# Altium schematic symbol library 我的器件.SCHLIB: 211 symbols (part 1 of 2)
Pins are listed as number, name and electrical type; pins without a type are passive.

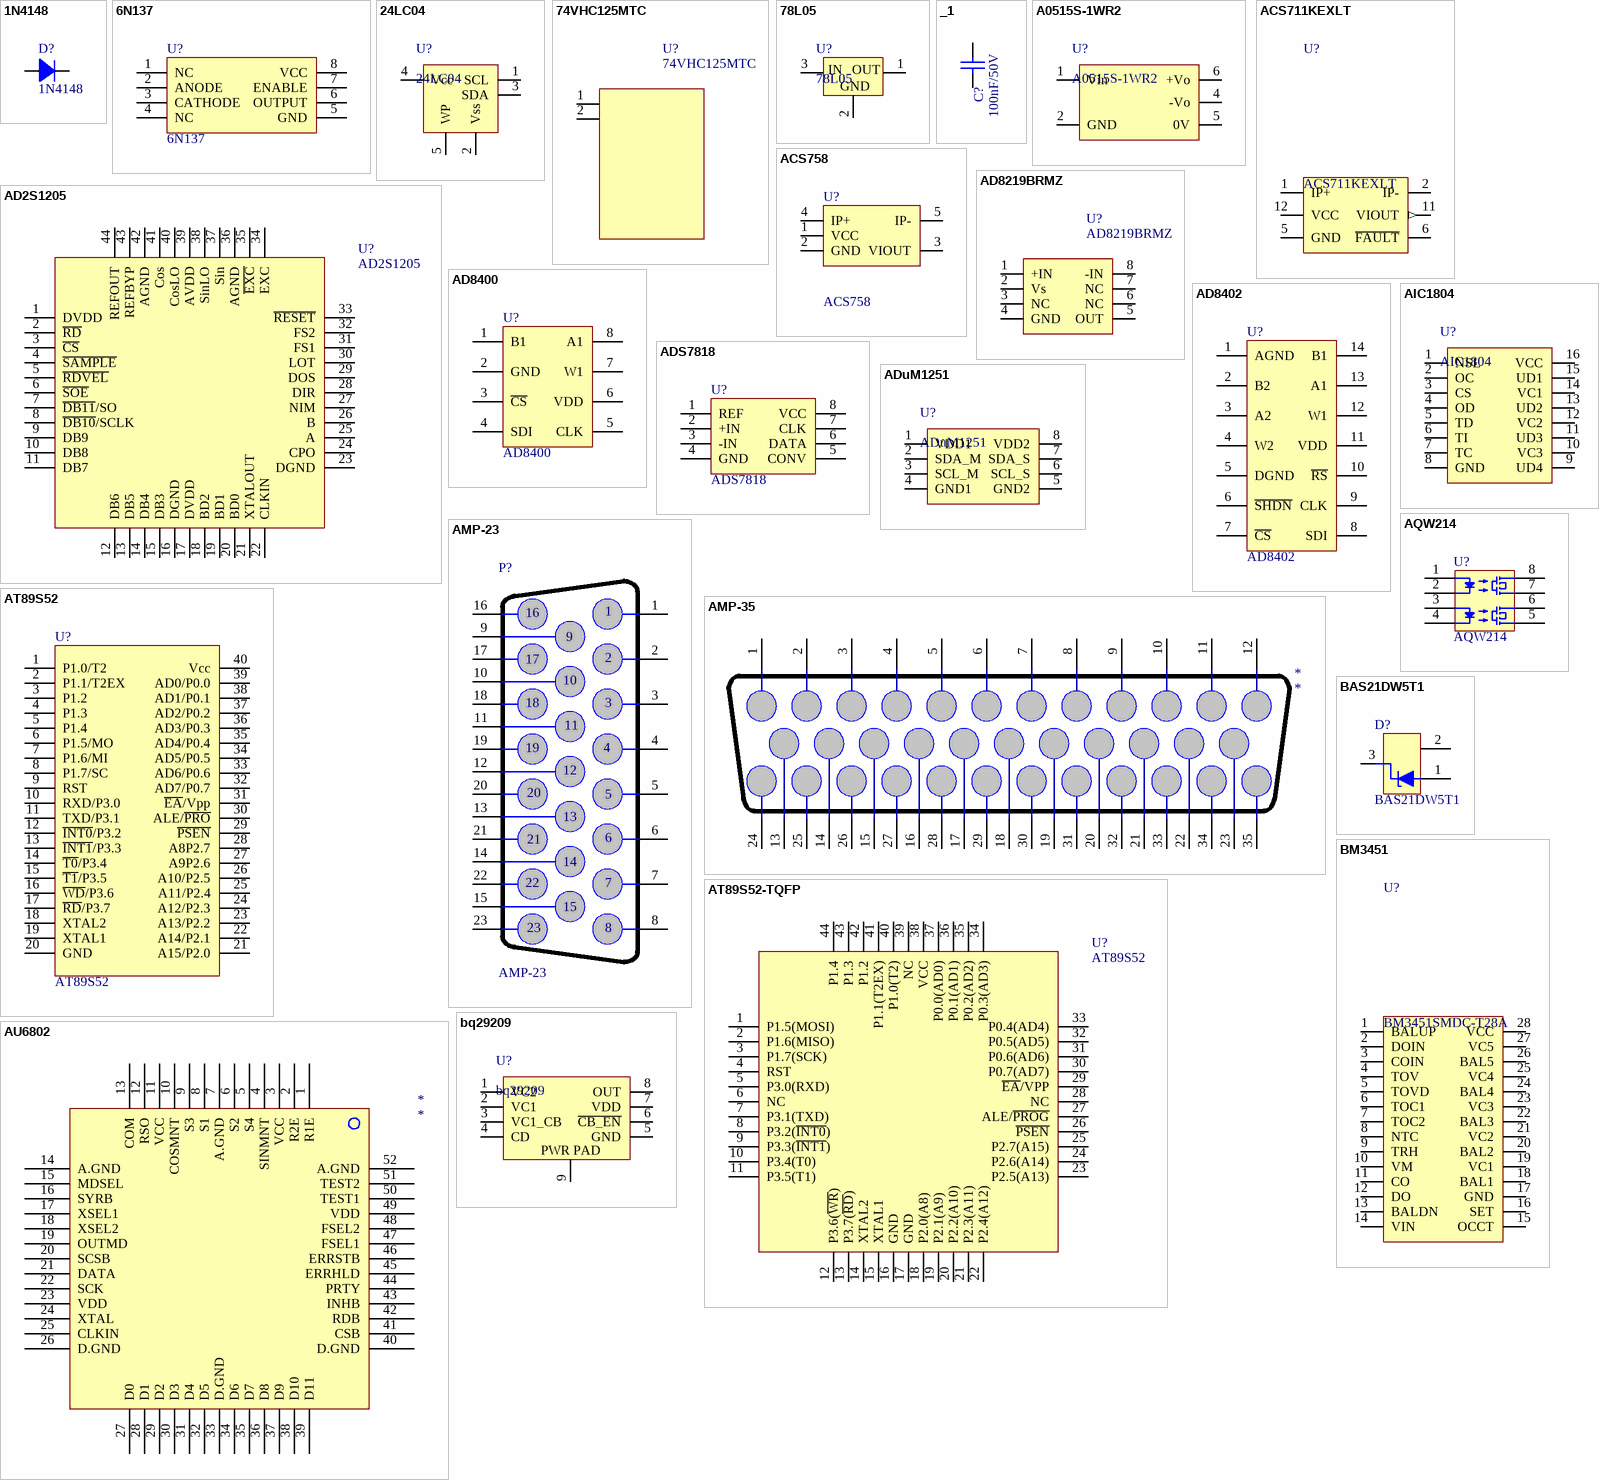
[diagram p0: symbols 1N4148 to bq29209]

## 1N4148
designator D?
HIGH-SPEED   SWITCHING DIODE; Manufacturers: ST; 10 Price  RMB: 0.0624; 1000 Price  RMB: 0.0472; Manufacturer's Footprint: *
footprint SOD123
pins: 1 A, 2 K

## 6N137
designator U?
footprint DIP-8 (Footprint not found)
pins: 1 NC, 2 ANODE, 3 CATHODE, 4 NC, 5 GND, 6 OUTPUT, 7 ENABLE, 8 VCC

## 24LC04
designator U?
Serial EEPROM; Manufacturers: Microchip; 1000 Price  RMB: 2; 10 Price  RMB: 2.8
footprint SOT23-5
pins: 1 SCL, 2 Vss, 3 SDA, 4 Vcc, 5 WP

## 74VHC125MTC
designator U?
Quad Buffer with 3-STATE Outputs; Manufacturers: FAIRCHILD; Manufacturer's Footprint: TSSOP14; 1000 Price  RMB: 0.7; 10 Price  RMB: 1
footprint TSSOP-14
pins: 1, 2

## 78L05
designator U?
footprint SOT-89
pins: 1 OUT, 2 GND, 3 IN

## _1
designator C?, comment 100nF/50V
Surface Mount Multilayer Ceramic Capacitors; Manufacturers: YAGEO/FH/TDK; 10 Price  RMB: 0.024; 1000 Price  RMB: 0.017; Tolerance: 10%
footprint 1206 (Body 3.2mmX1.6mm)
footprint 0603
pins: 1, 2

## A0515S-1WR2
designator U?
pins: 1 Vin, 2 GND, 4 -Vo, 5 0V, 6 +Vo

## ACS711KEXLT
designator U?
SENSOR CURRENT 3.3V 12-QFN; Manufacturers: Allegro; 10 Price  RMB: 6; 1000 Price  RMB: 4.4; Manufacturer's Footprint: *
footprint QFN12_3x3mm_EX
pins: 1 IP+, 2 IP-, 5 GND (power), 6 ~{FAULT}, 11 VIOUT (out), 12 VCC (power)

## ACS758
designator U?
footprint ACS758
pins: 1 VCC, 2 GND, 3 VIOUT, 4 IP+, 5 IP-

## AD2S1205
designator U?
pins: 1 DVDD, 2 ~{RD}, 3 ~{CS}, 4 ~{SAMPLE}, 5 ~{RDVEL}, 6 ~{SOE}, 7 ~{DB11}/SO, 8 ~{DB10}/SCLK, 9 DB9, 10 DB8, 11 DB7, 12 DB6, 13 DB5, 14 DB4, 15 DB3, 16 DGND, 17 DVDD, 18 BD2, 19 BD1, 20 BD0, 21 XTALOUT, 22 CLKIN, 23 DGND, 24 CPO, 25 A, 26 B, 27 NIM, 28 DIR, 29 DOS, 30 LOT, 31 FS1, 32 FS2, 33 ~{RESET}, 34 EXC, 35 ~{EXC}, 36 AGND, 37 Sin, 38 SinLO, 39 AVDD, 40 CosLO, 41 Cos, 42 AGND, 43 REFBYP, 44 REFOUT

## AD8219BRMZ
designator U?
Zero Drift, Unidirectional  Current Shunt Monitor; Manufacturers: ADI; Manufacturer's Footprint: MSOP-8; 1000 Price  RMB: 7.5; 10 Price  RMB: 12
footprint MSOP-8
pins: 1 +IN, 2 Vs, 3 NC, 4 GND, 5 OUT, 6 NC, 7 NC, 8 -IN

## AD8400
designator U?
pins: 1 B1, 2 GND, 3 ~{CS}, 4 SDI, 5 CLK, 6 VDD, 7 W1, 8 A1

## AD8402
designator U?
pins: 1 AGND, 2 B2, 3 A2, 4 W2, 5 DGND, 6 ~{SHDN}, 7 ~{CS}, 8 SDI, 9 CLK, 10 ~{RS}, 11 VDD, 12 W1, 13 A1, 14 B1

## ADS7818
designator U?
pins: 1 REF, 2 +IN, 3 -IN, 4 GND, 5 CONV, 6 DATA, 7 CLK, 8 VCC

## ADuM1251
designator U?
footprint SOP-8
pins: 1 VDD1, 2 SDA_M, 3 SCL_M, 4 GND1, 5 GND2, 6 SCL_S, 7 SDA_S, 8 VDD2

## AIC1804
designator U?
Three- Or Four-Cell Lithium-Ion Battery  Protection IC; Manufacturers: AIC; 1000 Price  RMB: *; 10 Price  RMB: *
footprint SOP-16
pins: 1 NSL, 2 OC, 3 CS, 4 OD, 5 TD, 6 TI, 7 TC, 8 GND, 9 UD4, 10 VC3, 11 UD3, 12 VC2, 13 UD2, 14 VC1, 15 UD1, 16 VCC

## AMP-23
designator P?
pins: 1, 2, 3, 4, 5, 6, 7, 8, 9, 10, 11, 12, 13, 14, 15, 16, 17, 18, 19, 20, 21, 22, 23

## AMP-35
designator *
pins: 1, 2, 3, 4, 5, 6, 7, 8, 9, 10, 11, 12, 13, 14, 15, 16, 17, 18, 19, 20, 21, 22, 23, 24, 25, 26, 27, 28, 29, 30, 31, 32, 33, 34, 35

## AQW214
designator U?
pins: 1, 2, 3, 4, 5, 6, 7, 8

## AT89S52
designator U?
pins: 1 P1.0/T2, 2 P1.1/T2EX, 3 P1.2, 4 P1.3, 5 P1.4, 6 P1.5/MO, 7 P1.6/MI, 8 P1.7/SC, 9 RST, 10 RXD/P3.0, 11 TXD/P3.1, 12 ~{INT0}/P3.2, 13 ~{INT1}/P3.3, 14 ~{T0}/P3.4, 15 ~{T1}/P3.5, 16 ~{WD}/P3.6, 17 ~{RD}/P3.7, 18 XTAL2, 19 XTAL1, 20 GND, 21 A15/P2.0, 22 A14/P2.1, 23 A13/P2.2, 24 A12/P2.3, 25 A11/P2.4, 26 A10/P2.5, 27 A9P2.6, 28 A8P2.7, 29 ~{PSEN}, 30 ALE/~{PRO}, 31 ~{EA}/Vpp, 32 AD7/P0.7, 33 AD6/P0.6, 34 AD5/P0.5, 35 AD4/P0.4, 36 AD3/P0.3, 37 AD2/P0.2, 38 AD1/P0.1, 39 AD0/P0.0, 40 Vcc

## AT89S52-TQFP
designator U?, comment AT89S52
footprint LQFP-44 (Body 12mmX12mmX1.2mm)
pins: 1 P1.5(MOSI), 2 P1.6(MISO), 3 P1.7(SCK), 4 RST, 5 P3.0(RXD), 6 NC, 7 P3.1(TXD), 8 P3.2(~{INT0}), 9 P3.3(~{INT1}), 10 P3.4(T0), 11 P3.5(T1), 12 P3.6(~{WR}), 13 P3.7(~{RD}), 14 XTAL2, 15 XTAL1, 16 GND, 17 GND, 18 P2.0(A8), 19 P2.1(A9), 20 P2.2(A10), 21 P2.3(A11), 22 P2.4(A12), 23 P2.5(A13), 24 P2.6(A14), 25 P2.7(A15), 26 ~{PSEN}, 27 ALE/~{PROG}, 28 NC, 29 ~{EA}/VPP, 30 P0.7(AD7), 31 P0.6(AD6), 32 P0.5(AD5), 33 P0.4(AD4), 34 P0.3(AD3), 35 P0.2(AD2), 36 P0.1(AD1), 37 P0.0(AD0), 38 VCC, 39 NC, 40 P1.0(T2), 41 P1.1(T2EX), 42 P1.2, 43 P1.3, 44 P1.4

## AU6802
designator *
pins: 1 R1E, 2 R2E, 3 VCC, 4 SINMNT, 5 S4, 6 S2, 7 A.GND, 8 S1, 9 S3, 10 COSMNT, 11 VCC, 12 RSO, 13 COM, 14 A.GND, 15 MDSEL, 16 SYRB, 17 XSEL1, 18 XSEL2, 19 OUTMD, 20 SCSB, 21 DATA, 22 SCK, 23 VDD, 24 XTAL, 25 CLKIN, 26 D.GND, 27 D0, 28 D1, 29 D2, 30 D3, 31 D4, 32 D5, 33 D.GND, 34 D6, 35 D7, 36 D8, 37 D9, 38 D10, 39 D11, 40 D.GND, 41 CSB, 42 RDB, 43 INHB, 44 PRTY, 45 ERRHLD, 46 ERRSTB, 47 FSEL1, 48 FSEL2, 49 VDD, 50 TEST1, 51 TEST2, 52 A.GND

## BAS21DW5T1
designator D?
pins: 1, 2, 3

## BM3451
designator U?, comment BM3451SMDC-T28A
3/4/5 cell BMS; Manufacturers: BYD; Manufacturer's Footprint: TSSOP28; 10 Price  RMB: 6; 1000 Price  RMB: 5
footprint TSSOP28
pins: 1 BALUP, 2 DOIN, 3 COIN, 4 TOV, 5 TOVD, 6 TOC1, 7 TOC2, 8 NTC, 9 TRH, 10 VM, 11 CO, 12 DO, 13 BALDN, 14 VIN, 15 OCCT, 16 SET, 17 GND, 18 BAL1, 19 VC1, 20 BAL2, 21 VC2, 22 BAL3, 23 VC3, 24 BAL4, 25 VC4, 26 BAL5, 27 VC5, 28 VCC

## bq29209
designator U?
Voltage Protection with Automatic Cell Balance for 2-Series Cell Li-Ion Batteries; Manufacturers: TI; Manufacturer's Footprint: S-PVSON-N8; 10 Price  RMB: 3.5; 1000 Price  RMB: 2.6
footprint QFN-8
pins: 1 VC2, 2 VC1, 3 VC1_CB, 4 CD, 5 GND, 6 ~{CB_EN}, 7 VDD, 8 OUT, 9 PWR PAD

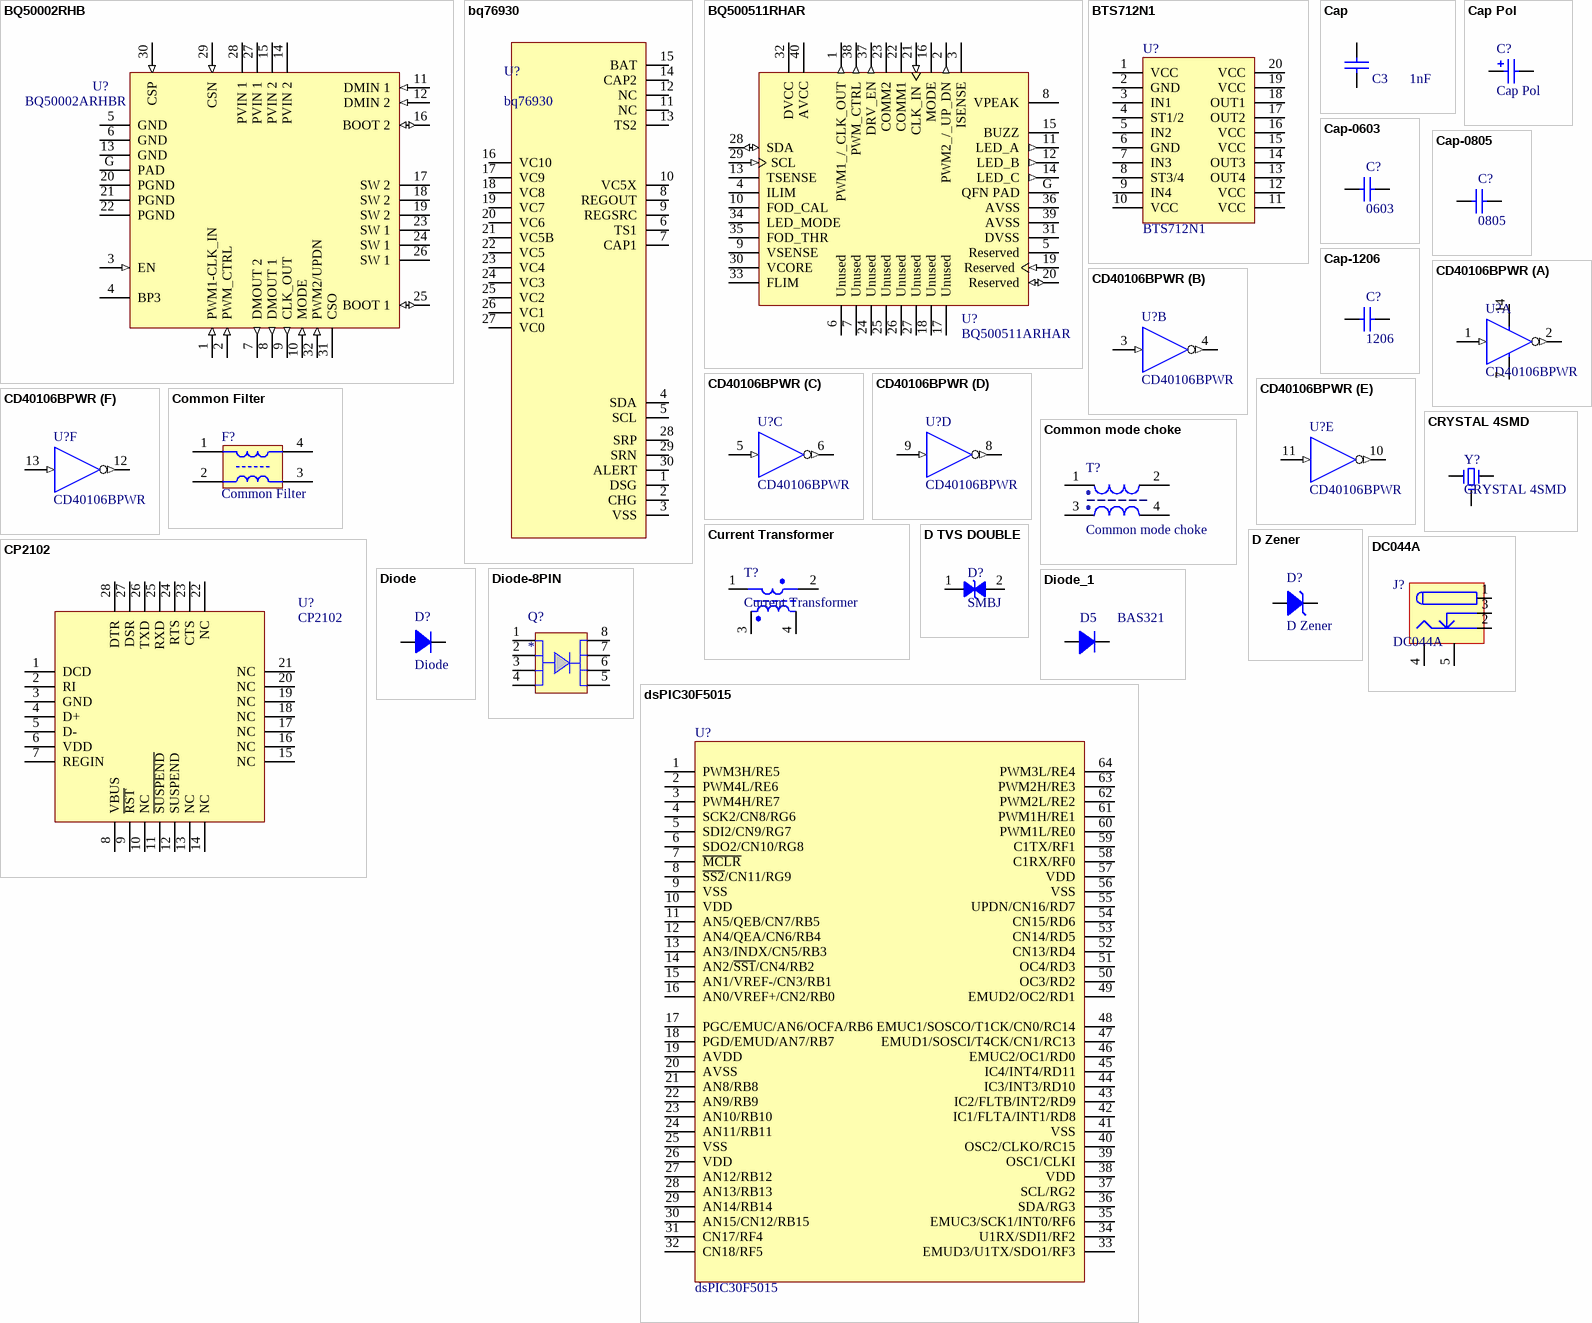
[diagram p1: symbols BQ50002RHB to dsPIC30F5015]

## BQ50002RHB
designator U?, comment BQ50002ARHBR
4.2V to 5.5V Input, 3A Full Bridge, 2 Channel Analog Demodulation Wireless Power TX-Driver for Wireless Charging Applications; Manufacturers: TI; Manufacturer's Footprint: QFN32; 10 Price  RMB: 25; 1000 Price  RMB: 18
footprint QFN-32
pins: 1 PWM1-CLK_IN (in), 2 PWM_CTRL (in), 3 EN (in), 4 BP3, 5 GND (power), 6 GND (power), 7 DMOUT 2 (out), 8 DMOUT 1 (out), 9 CLK_OUT (out), 10 MODE (in), 11 DMIN 1 (in), 12 DMIN 2 (in), 13 GND (power), 14 PVIN 2 (power), 15 PVIN 2 (power), 16 BOOT 2 (io), 17 SW 2 (power), 18 SW 2 (power), 19 SW 2 (power), 20 PGND (power), 21 PGND (power), 22 PGND (power), 23 SW 1 (power), 24 SW 1 (power), 25 BOOT 1 (io), 26 SW 1 (power), 27 PVIN 1 (power), 28 PVIN 1 (power), 29 CSN (in), 30 CSP (in), 31 CSO, 32 PWM2/UPDN (in), G PAD

## bq76930
designator U?
10s Battery Pack Monitoring, Balancing, and Protecting; Manufacturers: TI; 10 Price  RMB: 50; 1000 Price  RMB: 24
pins: 1 DSG, 2 CHG, 3 VSS, 4 SDA, 5 SCL, 6 TS1, 7 CAP1, 8 REGOUT, 9 REGSRC, 10 VC5X, 11 NC, 12 NC, 13 TS2, 14 CAP2, 15 BAT, 16 VC10, 17 VC9, 18 VC8, 19 VC7, 20 VC6, 21 VC5B, 22 VC5, 23 VC4, 24 VC3, 25 VC2, 26 VC1, 27 VC0, 28 SRP, 29 SRN, 30 ALERT

## BQ500511RHAR
designator U?, comment BQ500511ARHAR
Low Cost 5-V Wireless Power Transmitter Controller  for WPC v1.2 A11 Transmitters; Manufacturers: TI; Manufacturer's Footprint: VQFN40; 10 Price  RMB: 25; 1000 Price  RMB: 18
footprint QFN-40
pins: 1 PWM1_/_CLK_OUT (out), 2 PWM2_/_UP_DN (out), 3 ISENSE, 4 ILIM, 5 Reserved, 6 Unused, 7 Unused, 8 VPEAK, 9 VSENSE, 10 FOD_CAL, 11 LED_A (out), 12 LED_B (out), 13 TSENSE, 14 LED_C (out), 15 BUZZ, 16 MODE, 17 Unused, 18 Unused, 19 Reserved (in), 20 Reserved (io), 21 CLK_IN (in), 22 COMM1, 23 COMM2, 24 Unused, 25 Unused, 26 Unused, 27 Unused, 28 SDA (io), 29 SCL (in), 30 VCORE, 31 DVSS (power), 32 DVCC (power), 33 FLIM, 34 LED_MODE, 35 FOD_THR, 36 AVSS (power), 37 DRV_EN (out), 38 PWM_CTRL (out), 39 AVSS (power), 40 AVCC (power), G QFN PAD (power)

## BTS712N1
designator U?
pins: 1 VCC, 2 GND, 3 IN1, 4 ST1/2, 5 IN2, 6 GND, 7 IN3, 8 ST3/4, 9 IN4, 10 VCC, 11 VCC, 12 VCC, 13 OUT4, 14 OUT3, 15 VCC, 16 VCC, 17 OUT2, 18 OUT1, 19 VCC, 20 VCC

## Cap
designator C3, comment 1nF
Capacitor; Published: 8-Jun-2000; LatestRevisionDate: 17-Jul-2002; LatestRevisionNote: Re-released for DXP Platform.; PackageReference: RAD-0.3; Publisher: Altium Limited
simulation model CAP (Capacitor)
signal-integrity model Cap
footprint 0805 (Body 2.0 x 1.2 mm)
footprint 0603
pins: 1, 2

## Cap Pol
designator C?
footprint SMD6.3
pins: 1, 2

## Cap-0603
designator C?, comment 0603
Surface Mount Multilayer Ceramic Capacitors; Manufacturers: YAGEO/FH/TDK; 10 Price  RMB: 0.012; 1000 Price  RMB: 0.01; Tolerance: 10%; Manufacturer's Footprint: 0603
footprint 0603 (Body 1.6mmX0.8mm)
pins: 1, 2

## Cap-0805
designator C?, comment 0805
Surface Mount Multilayer Ceramic Capacitors; Manufacturers: YAGEO/FH/TDK; 10 Price  RMB: 0.03; 1000 Price  RMB: 0.05; Tolerance: 10%; Manufacturer's Footprint: 0805
footprint 0805 (Body 2.0 x 1.2 mm)
pins: 1, 2

## Cap-1206
designator C?, comment 1206
Surface Mount Multilayer Ceramic Capacitors; Manufacturers: YAGEO/FH/TDK; 10 Price  RMB: 0.2; 1000 Price  RMB: 0.1; Tolerance: 10%; Manufacturer's Footprint: 1206
footprint 1206 (Body 3.2mmX1.6mm)
pins: 1, 2

## CD40106BPWR
designator U?
Hex Schmitt Trigger; Manufacturers: TI; 10 Price  RMB: 1.29; 1000 Price  RMB: 0.8
footprint TSSOP-14
part A pins: 1 A (in), 2 G (out), 7, 14
part B pins: 3 B (in), 4 H (out)
part C pins: 5 C (in), 6 I (out)
part D pins: 8 J (out), 9 D (in)
part E pins: 10 K (out), 11 E (in)
part F pins: 12 L (out), 13 F (in)

## Common Filter
designator F?
footprint Filter CAN
pins: 1, 2, 3, 4

## Common mode choke
designator T?
10 Price  RMB: *; 1000 Price  RMB: *; Manufacturers: *
footprint Filter R2012
pins: 1, 2, 3, 4

## CP2102
designator U?
footprint TQFN-28
pins: 1 DCD, 2 RI, 3 GND, 4 D+, 5 D-, 6 VDD, 7 REGIN, 8 VBUS, 9 ~{RST}, 10 NC, 11 ~{SUSPEND}, 12 SUSPEND, 13 NC, 14 NC, 15 NC, 16 NC, 17 NC, 18 NC, 19 NC, 20 NC, 21 NC, 22 NC, 23 CTS, 24 RTS, 25 RXD, 26 TXD, 27 DSR, 28 DTR

## CRYSTAL 4SMD
designator Y?
footprint CRYSTAL2520-4
pins: 1, 2, G

## Current Transformer
designator T?
pins: 1, 2, 3, 4

## D TVS DOUBLE
designator D?, comment SMBJ
Manufacturers: Vishay/MCC; 1000 Price  RMB: 0.3; 10 Price  RMB: 0.4
footprint SMB
pins: 1 A, 2 K

## D Zener
designator D?
1000 Price  RMB: *; 10 Price  RMB: *; Manufacturers: *
pins: 1 A, 2 K

## DC044A
designator J?
Low Voltage Power Supply Connector; Published: 17-Dec-2003; DatasheetDocument: 09-May-2002; Publisher: Altium Limited; ComponentLink1Description: Manufacturer Link; ComponentLink1URL: http://domino.kycon.com/internet/Products.html
footprint DC044
signal-integrity model Connector
pins: 1 (power), 2 (power), 3 (power), 4, 5

## Diode
designator D?
pins: 1 A, 2 K

## Diode-8PIN
designator Q?
Manufacturers: *; 1000 Price  RMB: *; 10 Price  RMB: *
footprint SON5X6
pins: 1 S, 2 S, 3 S, 4 G, 5 D, 6 D, 7 D, 8 D

## Diode_1
designator D5, comment BAS321
HIGH-SPEED   SWITCHING DIODE; Manufacturers: NXP; 10 Price  RMB: 0.25; 1000 Price  RMB: 0.16
footprint SOD323
pins: 1 A, 2 K

## dsPIC30F5015
designator U?
footprint TQFP-64
pins: 1 PWM3H/RE5, 2 PWM4L/RE6, 3 PWM4H/RE7, 4 SCK2/CN8/RG6, 5 SDI2/CN9/RG7, 6 SDO2/CN10/RG8, 7 ~{MCLR}, 8 ~{SS2}/CN11/RG9, 9 VSS, 10 VDD, 11 AN5/QEB/CN7/RB5, 12 AN4/QEA/CN6/RB4, 13 AN3/INDX/CN5/RB3, 14 AN2/~{SS1}/CN4/RB2, 15 AN1/VREF-/CN3/RB1, 16 AN0/VREF+/CN2/RB0, 17 PGC/EMUC/AN6/OCFA/RB6, 18 PGD/EMUD/AN7/RB7, 19 AVDD, 20 AVSS, 21 AN8/RB8, 22 AN9/RB9, 23 AN10/RB10, 24 AN11/RB11, 25 VSS, 26 VDD, 27 AN12/RB12, 28 AN13/RB13, 29 AN14/RB14, 30 AN15/CN12/RB15, 31 CN17/RF4, 32 CN18/RF5, 33 EMUD3/U1TX/SDO1/RF3, 34 U1RX/SDI1/RF2, 35 EMUC3/SCK1/INT0/RF6, 36 SDA/RG3, 37 SCL/RG2, 38 VDD, 39 OSC1/CLKI, 40 OSC2/CLKO/RC15, 41 VSS, 42 IC1/FLTA/INT1/RD8, 43 IC2/FLTB/INT2/RD9, 44 IC3/INT3/RD10, 45 IC4/INT4/RD11, 46 EMUC2/OC1/RD0, 47 EMUD1/SOSCI/T4CK/CN1/RC13, 48 EMUC1/SOSCO/T1CK/CN0/RC14, 49 EMUD2/OC2/RD1, 50 OC3/RD2, 51 OC4/RD3, 52 CN13/RD4, 53 CN14/RD5, 54 CN15/RD6, 55 UPDN/CN16/RD7, 56 VSS, 57 VDD, 58 C1RX/RF0, 59 C1TX/RF1, 60 PWM1L/RE0, 61 PWM1H/RE1, 62 PWM2L/RE2, 63 PWM2H/RE3, 64 PWM3L/RE4

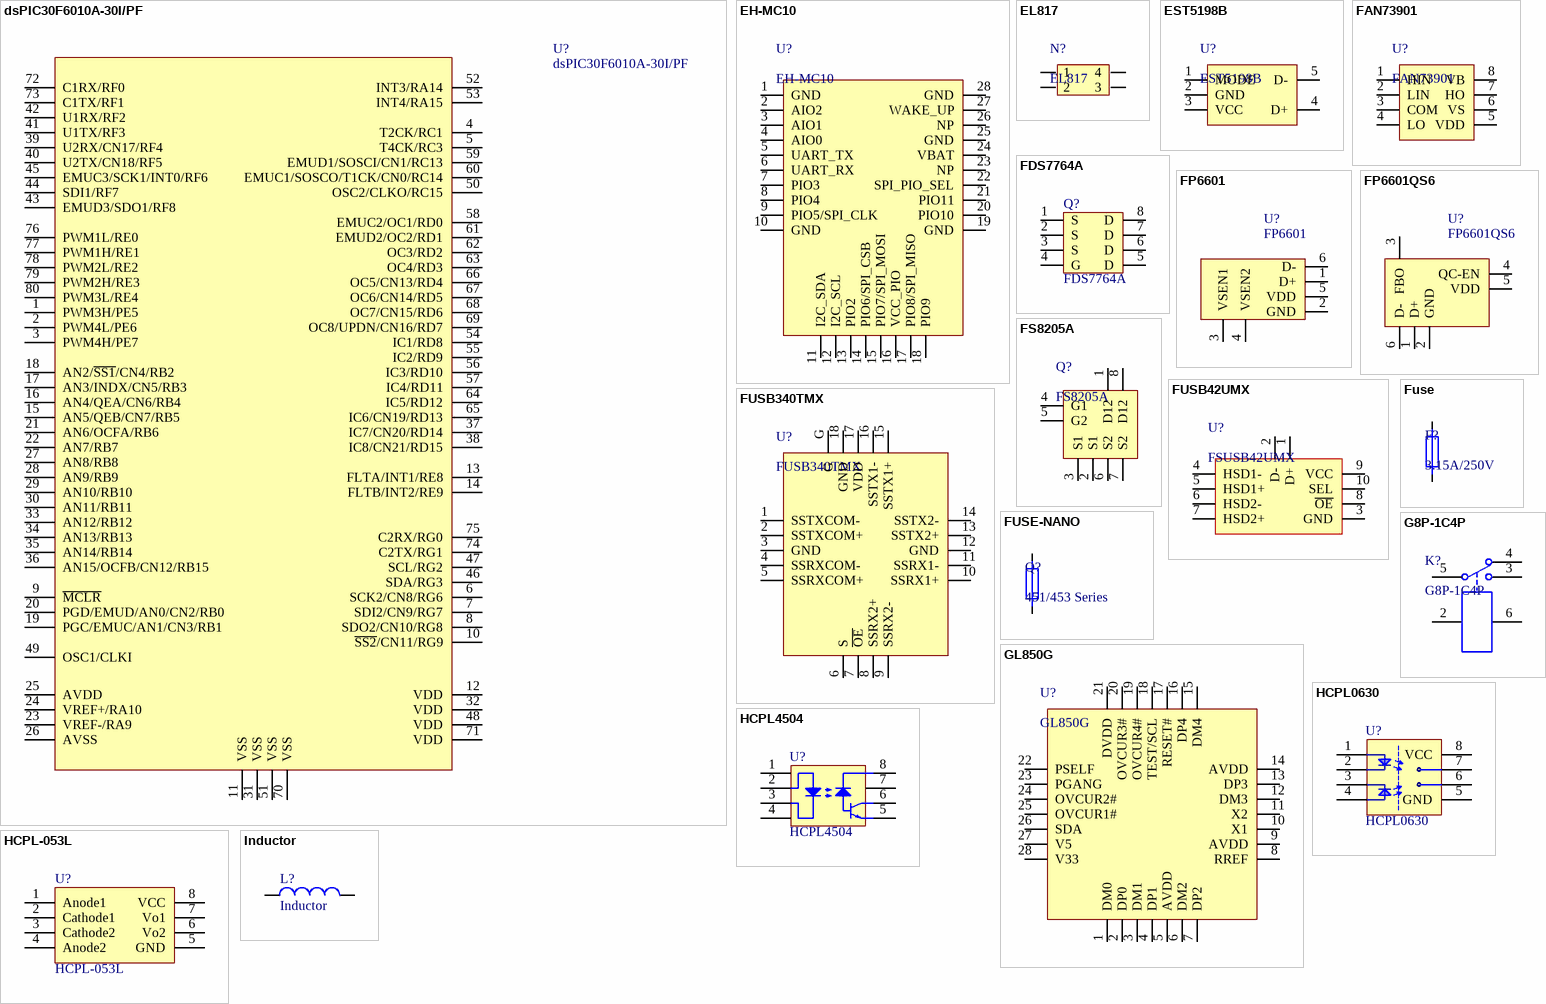
[diagram p2: symbols dsPIC30F6010A-30I/PF to Inductor]

## dsPIC30F6010A-30I/PF
designator U?
footprint TQFP-80
pins: 1 PWM3H/PE5, 2 PWM4L/PE6, 3 PWM4H/PE7, 4 T2CK/RC1, 5 T4CK/RC3, 6 SCK2/CN8/RG6, 7 SDI2/CN9/RG7, 8 SDO2/CN10/RG8, 9 ~{MCLR}, 10 ~{SS2}/CN11/RG9, 11 VSS, 12 VDD, 13 FLTA/INT1/RE8, 14 FLTB/INT2/RE9, 15 AN5/QEB/CN7/RB5, 16 AN4/QEA/CN6/RB4, 17 AN3/INDX/CN5/RB3, 18 AN2/~{SS1}/CN4/RB2, 19 PGC/EMUC/AN1/CN3/RB1, 20 PGD/EMUD/AN0/CN2/RB0, 21 AN6/OCFA/RB6, 22 AN7/RB7, 23 VREF-/RA9, 24 VREF+/RA10, 25 AVDD, 26 AVSS, 27 AN8/RB8, 28 AN9/RB9, 29 AN10/RB10, 30 AN11/RB11, 31 VSS, 32 VDD, 33 AN12/RB12, 34 AN13/RB13, 35 AN14/RB14, 36 AN15/OCFB/CN12/RB15, 37 IC7/CN20/RD14, 38 IC8/CN21/RD15, 39 U2RX/CN17/RF4, 40 U2TX/CN18/RF5, 41 U1TX/RF3, 42 U1RX/RF2, 43 EMUD3/SDO1/RF8, 44 SDI1/RF7, 45 EMUC3/SCK1/INT0/RF6, 46 SDA/RG3, 47 SCL/RG2, 48 VDD, 49 OSC1/CLKI, 50 OSC2/CLKO/RC15, 51 VSS, 52 INT3/RA14, 53 INT4/RA15, 54 IC1/RD8, 55 IC2/RD9, 56 IC3/RD10, 57 IC4/RD11, 58 EMUC2/OC1/RD0, 59 EMUD1/SOSCI/CN1/RC13, 60 EMUC1/SOSCO/T1CK/CN0/RC14, 61 EMUD2/OC2/RD1, 62 OC3/RD2, 63 OC4/RD3, 64 IC5/RD12, 65 IC6/CN19/RD13, 66 OC5/CN13/RD4, 67 OC6/CN14/RD5, 68 OC7/CN15/RD6, 69 OC8/UPDN/CN16/RD7, 70 VSS, 71 VDD, 72 C1RX/RF0, 73 C1TX/RF1, 74 C2TX/RG1, 75 C2RX/RG0, 76 PWM1L/RE0, 77 PWM1H/RE1, 78 PWM2L/RE2, 79 PWM2H/RE3, 80 PWM3L/RE4

## EH-MC10
designator U?
footprint EH-MC10
pins: 1 GND, 2 AIO2, 3 AIO1, 4 AIO0, 5 UART_TX, 6 UART_RX, 7 PIO3, 8 PIO4, 9 PIO5/SPI_CLK, 10 GND, 11 I2C_SDA, 12 I2C_SCL, 13 PIO2, 14 PIO6/SPI_CSB, 15 PIO7/SPI_MOSI, 16 VCC_PIO, 17 PIO8/SPI_MISO, 18 PIO9, 19 GND, 20 PIO10, 21 PIO11, 22 SPI_PIO_SEL, 23 NP, 24 VBAT, 25 GND, 26 NP, 27 WAKE_UP, 28 GND

## EL817
designator N?
footprint LC-DIP-4
pins: 1, 2, 3, 4

## EST5198B
designator U?
USB Charger EnhanceIC; Manufacturers: EST; 10 Price  RMB: *; 1000 Price  RMB: *
footprint SOT23-5
pins: 1 MODE, 2 GND, 3 VCC, 4 D+, 5 D-

## FAN73901
designator U?
HIGH AND LOW SIDE DRIVER; Manufacturers: Fairchild; 10 Price  RMB: *; 1000 Price  RMB: *
footprint SOP-8
pins: 1 HIN, 2 LIN, 3 COM, 4 LO, 5 VDD, 6 VS, 7 HO, 8 VB

## FDS7764A
designator Q?
footprint SOP-8
pins: 1 S, 2 S, 3 S, 4 G, 5 D, 6 D, 7 D, 8 D

## FP6601
designator U?
USB Dedicated Charging Port Controller with QC 2.0 Fast  Charging; Manufacturers: fitipower; Manufacturer's Footprint: SOT-23-6; 1000 Price  RMB: 0.9; 10 Price  RMB: 1
footprint SOT23-6
pins: 1 D+, 2 GND, 3 VSEN1, 4 VSEN2, 5 VDD, 6 D-

## FP6601QS6
designator U?
USB Dedicated Charging Port Controller for   Fast  Charging  Protocol  and  QC  2.0/3.0; Manufacturers: fitipower; Manufacturer's Footprint: SOT-23-6; 1000 Price  RMB: 0.9; 10 Price  RMB: 1
footprint SOT23-6
pins: 1 D+, 2 GND, 3 FBO, 4 QC-EN, 5 VDD, 6 D-

## FS8205A
designator Q?
Dual N-Channel Power MOSFET; Manufacturers: Fortune; 10 Price  RMB: 1; 1000 Price  RMB: 0.25; Manufacturer's Footprint: *
footprint TSSOP-8
pins: 1 D12, 2 S1, 3 S1, 4 G1, 5 G2, 6 S2, 7 S2, 8 D12

## FUSB42UMX
designator U?, comment FSUSB42UMX
Low-Power,Tow-Port,High-Speed,USB 2.0(480Mbps)UART Switch; Manufacturers: FAIRCHILD; Manufacturer's Footprint: UMLP 10; 10 Price  RMB: 3; 1000 Price  RMB: 1.7
footprint UMLP-10
pins: 1 D+, 2 D-, 3 GND, 4 HSD1-, 5 HSD1+, 6 HSD2-, 7 HSD2+, 8 ~{OE}, 9 VCC, 10 SEL

## FUSB340TMX
designator U?
USB 3.1 SuperSpeed 10 Gbps Switch; Manufacturers: Fairchild; Manufacturer's Footprint: TMLP 18; 10 Price  RMB: *; 1000 Price  RMB: *
footprint TMLP-18
pins: 1 SSTXCOM-, 2 SSTXCOM+, 3 GND, 4 SSRXCOM-, 5 SSRXCOM+, 6 S, 7 ~{OE}, 8 SSRX2+, 9 SSRX2-, 10 SSRX1+, 11 SSRX1-, 12 GND, 13 SSTX2+, 14 SSTX2-, 15 SSTX1+, 16 SSTX1-, 17 VDD, 18 GND, G

## Fuse
designator F?, comment 3.15A/250V
Fuse; 10 Price  RMB: 0.5; 1000 Price  RMB: 0.3
footprint FUSE8X4
pins: 1, 2

## FUSE-NANO
designator Q?, comment 451/453 Series
Very Fast-Acting Fuse; Manufacturers: Littelfuse; Manufacturer's Footprint: 2410(6127); 10 Price  RMB: 1; 1000 Price  RMB: 0.6
footprint 2410
pins: 1, 2

## G8P-1C4P
designator K?
footprint G8P-1C4P
pins: 2, 3, 4, 5, 6

## GL850G
designator U?
USB  2.0  Low-Power  HUB  Controller; Manufacturers: Genesys Logic; Manufacturer's Footprint: QFN-28; 10 Price  RMB: *; 1000 Price  RMB: *
footprint QFN-28 (Footprint not found)
pins: 1 DM0, 2 DP0, 3 DM1, 4 DP1, 5 AVDD, 6 DM2, 7 DP2, 8 RREF, 9 AVDD, 10 X1, 11 X2, 12 DM3, 13 DP3, 14 AVDD, 15 DM4, 16 DP4, 17 RESET#, 18 TEST/SCL, 19 OVCUR4#, 20 OVCUR3#, 21 DVDD, 22 PSELF, 23 PGANG, 24 OVCUR2#, 25 OVCUR1#, 26 SDA, 27 V5, 28 V33

## HCPL0630
designator U?
Manufacturer's Footprint: *
footprint SOP-8
pins: 1 A1, 2 K1, 3 A2, 4 K2, 5 GND, 6 OC2, 7 OC1, 8 VCC

## HCPL4504
designator U?
pins: 1, 2, 3, 4, 5, 6, 7, 8

## HCPL-053L
designator U?
pins: 1 Anode1, 2 Cathode1, 3 Cathode2, 4 Anode2, 5 GND, 6 Vo2, 7 Vo1, 8 VCC

## Inductor
designator L?
pins: 1, 2

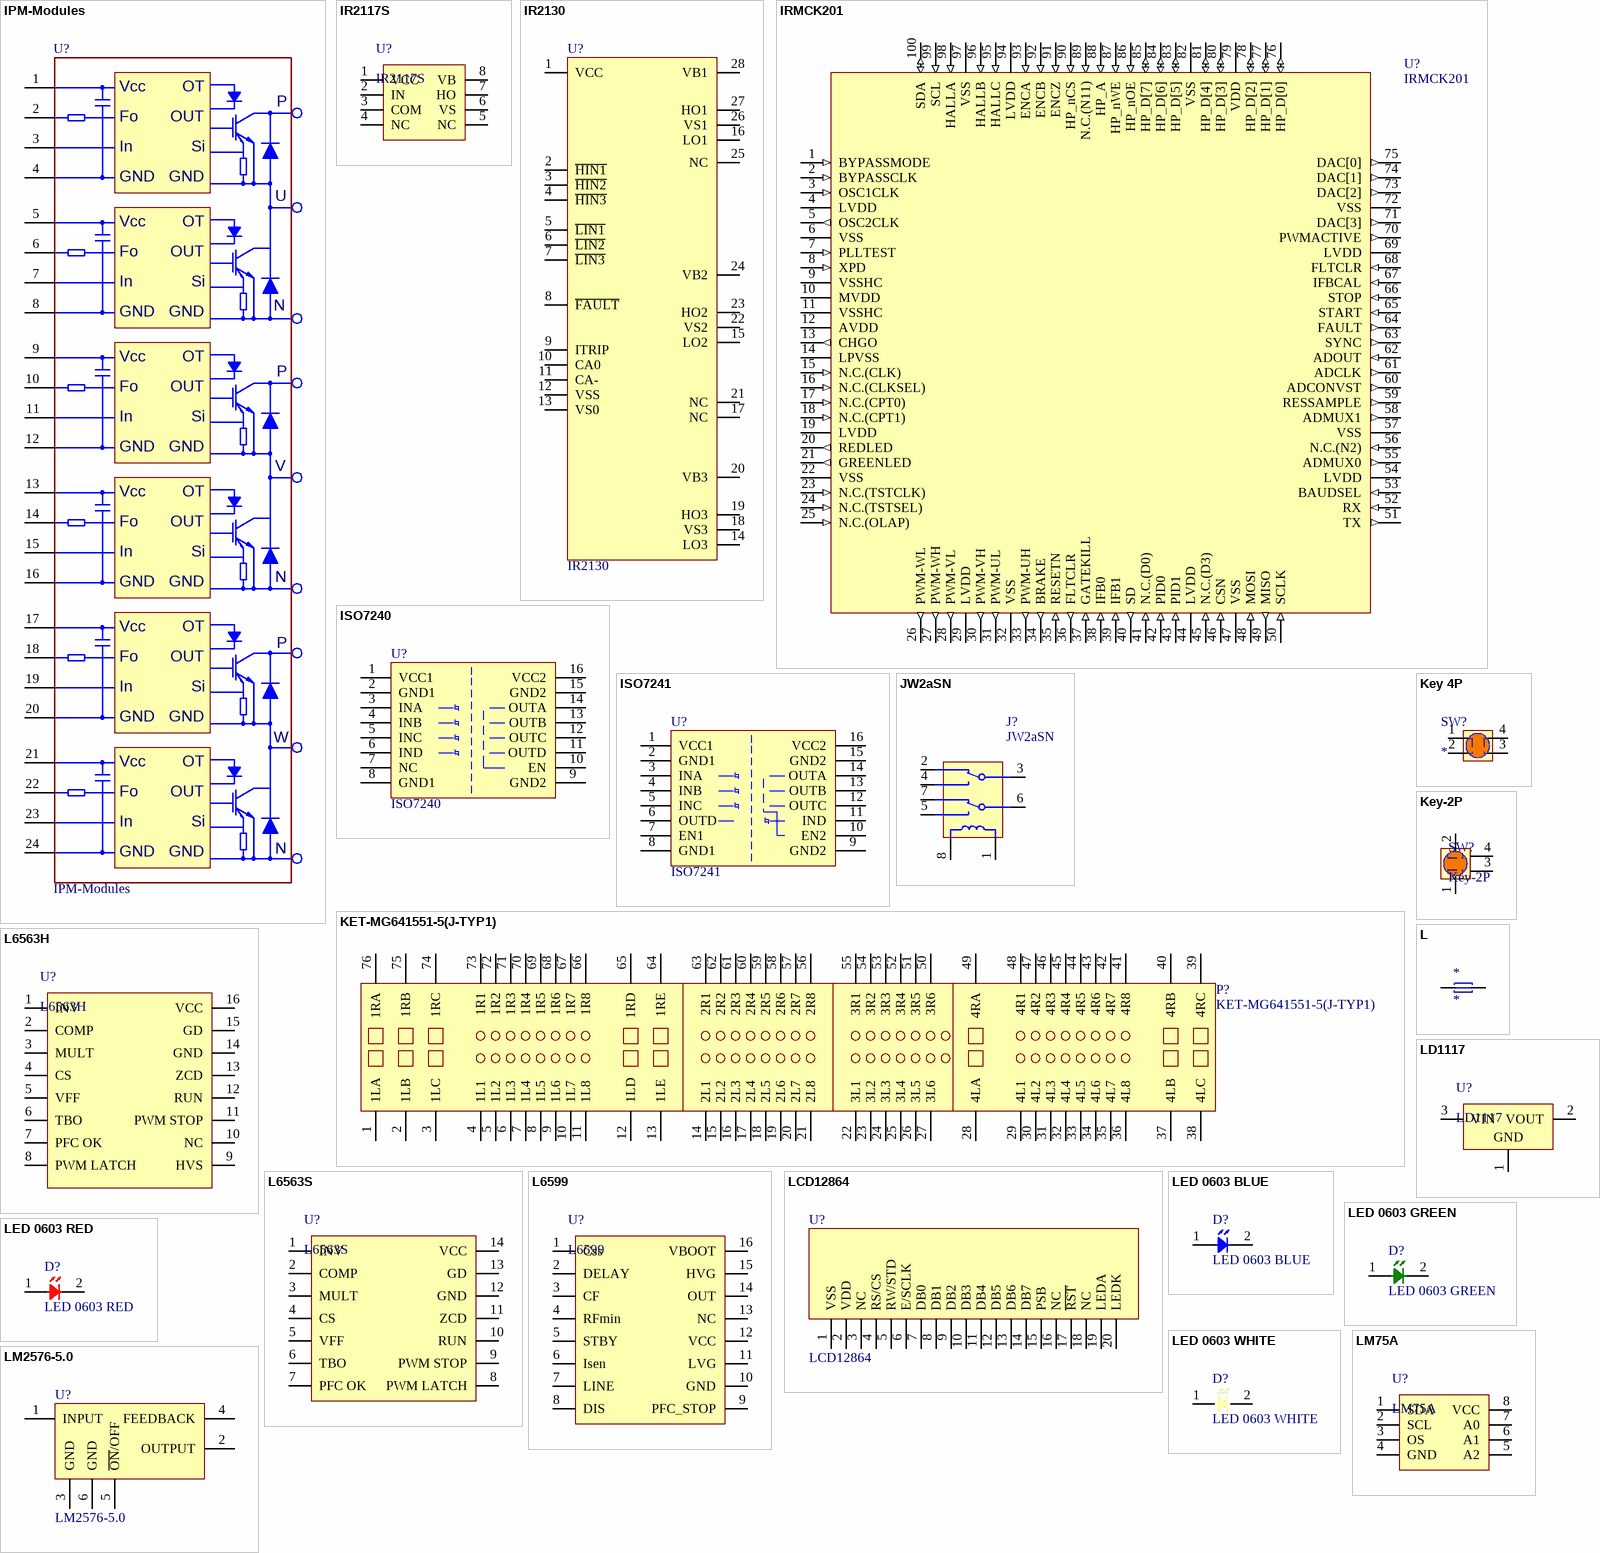
[diagram p3: symbols IPM-Modules to LM2576-5.0]

## IPM-Modules
designator U?
pins: 1, 2, 3, 4, 5, 6, 7, 8, 9, 10, 11, 12, 13, 14, 15, 16, 17, 18, 19, 20, 21, 22, 23, 24
text: Vcc; OT; P; Fo; OUT; In; Si; GND; U; N; V; W

## IR2117S
designator U?
SINGLE CHANNEL DRIVER; Manufacturers: IR; 10 Price  RMB: 3.32; 1000 Price  RMB: 2.18
footprint SOP-8
pins: 1 VCC, 2 IN, 3 COM, 4 NC, 5 NC, 6 VS, 7 HO, 8 VB

## IR2130
designator U?
pins: 1 VCC, 2 ~{HIN1}, 3 ~{HIN2}, 4 ~{HIN3}, 5 ~{LIN1}, 6 ~{LIN2}, 7 ~{LIN3}, 8 ~{FAULT}, 9 ITRIP, 10 CA0, 11 CA-, 12 VSS, 13 VS0, 14 LO3, 15 LO2, 16 LO1, 17 NC, 18 VS3, 19 HO3, 20 VB3, 21 NC, 22 VS2, 23 HO2, 24 VB2, 25 NC, 26 VS1, 27 HO1, 28 VB1

## IRMCK201
designator U?
footprint tQFP-100
pins: 1 BYPASSMODE (in), 2 BYPASSCLK (in), 3 OSC1CLK (in), 4 LVDD (power), 5 OSC2CLK (out), 6 VSS (power), 7 PLLTEST (in), 8 XPD (in), 9 VSSHC (power), 10 MVDD (power), 11 VSSHC (power), 12 AVDD (power), 13 CHGO (out), 14 LPVSS (power), 15 N.C.(CLK) (in), 16 N.C.(CLKSEL) (in), 17 N.C.(CPT0) (in), 18 N.C.(CPT1) (in), 19 LVDD (power), 20 REDLED (out), 21 GREENLED (out), 22 VSS (power), 23 N.C.(TSTCLK) (in), 24 N.C.(TSTSEL) (in), 25 N.C.(OLAP) (in), 26 PWM-WL (out), 27 PWM-WH (out), 28 PWM-VL (out), 29 LVDD (power), 30 PWM-VH (out), 31 PWM-UL (out), 32 VSS (power), 33 PWM-UH (out), 34 BRAKE (out), 35 RESETN (in), 36 FLTCLR (out), 37 GATEKILL (in), 38 IFB0 (in), 39 IFB1 (in), 40 SD (out), 41 N.C.(D0) (in), 42 PID0 (in), 43 PID1 (in), 44 LVDD (power), 45 N.C.(D3) (in), 46 CSN (in), 47 VSS (power), 48 MOSI (in), 49 MISO (out), 50 SCLK (in), 51 TX (out), 52 RX (in), 53 BAUDSEL (in), 54 LVDD (power), 55 ADMUX0 (out), 56 N.C.(N2) (in), 57 VSS (power), 58 ADMUX1 (out), 59 RESSAMPLE (out), 60 ADCONVST (out), 61 ADCLK (out), 62 ADOUT (in), 63 SYNC (out), 64 FAULT (out), 65 START (in), 66 STOP (in), 67 IFBCAL (in), 68 FLTCLR (in), 69 LVDD (power), 70 PWMACTIVE (out), 71 DAC[3] (out), 72 VSS (power), 73 DAC[2] (out), 74 DAC[1] (out), 75 DAC[0] (out), 76 HP_D[0] (io), 77 HP_D[1] (io), 78 HP_D[2] (io), 79 VDD (power), 80 HP_D[3] (io), 81 HP_D[4] (io), 82 VSS (power), 83 HP_D[5] (io), 84 HP_D[6] (io), 85 HP_D[7] (io), 86 HP_nOE (in), 87 HP_nWE (in), 88 HP_A (in), 89 N.C.(N11) (in), 90 HP_nCS (in), 91 ENCZ (in), 92 ENCB (in), 93 ENCA (in), 94 LVDD (power), 95 HALLC (in), 96 HALLB (in), 97 VSS (power), 98 HALLA (in), 99 SCL (in), 100 SDA (io)

## ISO7240
designator U?
footprint SOIC-16 (Wide body)
pins: 1 VCC1, 2 GND1, 3 INA, 4 INB, 5 INC, 6 IND, 7 NC, 8 GND1, 9 GND2, 10 EN, 11 OUTD, 12 OUTC, 13 OUTB, 14 OUTA, 15 GND2, 16 VCC2

## ISO7241
designator U?
footprint SOIC-16 (Wide body)
pins: 1 VCC1, 2 GND1, 3 INA, 4 INB, 5 INC, 6 OUTD, 7 EN1, 8 GND1, 9 GND2, 10 EN2, 11 IND, 12 OUTC, 13 OUTB, 14 OUTA, 15 GND2, 16 VCC2

## JW2aSN
designator J?
5A/2a power relays; Manufacturers: Panasonic; 1000 Price  RMB: 8; 10 Price  RMB: 10; Manufacturer's Footprint: *
footprint SOT23-5
pins: 1, 2, 3, 4, 5, 6, 7, 8

## KET-MG641551-5(J-TYP1)
designator P?
76P
pins: 1 1LA, 2 1LB, 3 1LC, 4 1L1, 5 1L2, 6 1L3, 7 1L4, 8 1L5, 9 1L6, 10 1L7, 11 1L8, 12 1LD, 13 1LE, 14 2L1, 15 2L2, 16 2L3, 17 2L4, 18 2L5, 19 2L6, 20 2L7, 21 2L8, 22 3L1, 23 3L2, 24 3L3, 25 3L4, 26 3L5, 27 3L6, 28 4LA, 29 4L1, 30 4L2, 31 4L3, 32 4L4, 33 4L5, 34 4L6, 35 4L7, 36 4L8, 37 4LB, 38 4LC, 39 4RC, 40 4RB, 41 4R8, 42 4R7, 43 4R6, 44 4R5, 45 4R4, 46 4R3, 47 4R2, 48 4R1, 49 4RA, 50 3R6, 51 3R5, 52 3R4, 53 3R3, 54 3R2, 55 3R1, 56 2R8, 57 2R7, 58 2R6, 59 2R5, 60 2R4, 61 2R3, 62 2R2, 63 2R1, 64 1RE, 65 1RD, 66 1R8, 67 1R7, 68 1R6, 69 1R5, 70 1R4, 71 1R3, 72 1R2, 73 1R1, 74 1RC, 75 1RB, 76 1RA

## Key 4P
designator SW?
1000 Price  RMB: *; 10 Price  RMB: *; Manufacturers: *
pins: 1, 2, 3, 4

## Key-2P
designator SW?
10 Price  RMB: 0.2; 1000 Price  RMB: 0.1; Manufacturers: *
footprint K2-1806
pins: 1, 2, 3, 4

## L
designator *
pins: 1, 2

## L6563H
designator U?
footprint SOP-16
pins: 1 INV, 2 COMP, 3 MULT, 4 CS, 5 VFF, 6 TBO, 7 PFC OK, 8 PWM LATCH, 9 HVS, 10 NC, 11 PWM STOP, 12 RUN, 13 ZCD, 14 GND, 15 GD, 16 VCC

## L6563S
designator U?
footprint SOP-14
pins: 1 INV, 2 COMP, 3 MULT, 4 CS, 5 VFF, 6 TBO, 7 PFC OK, 8 PWM LATCH, 9 PWM STOP, 10 RUN, 11 ZCD, 12 GND, 13 GD, 14 VCC

## L6599
designator U?
footprint SOP-16
pins: 1 Css, 2 DELAY, 3 CF, 4 RFmin, 5 STBY, 6 Isen, 7 LINE, 8 DIS, 9 PFC_STOP, 10 GND, 11 LVG, 12 VCC, 13 NC, 14 OUT, 15 HVG, 16 VBOOT

## LCD12864
designator U?
pins: 1 VSS, 2 VDD, 3 NC, 4 RS/CS, 5 RW/STD, 6 E/SCLK, 7 DB0, 8 DB1, 9 DB2, 10 DB3, 11 DB4, 12 DB5, 13 DB6, 14 DB7, 15 PSB, 16 NC, 17 ~{RST}, 18 NC, 19 LEDA, 20 LEDK

## LD1117
designator U?
footprint SOT-223 (SOT-223/SC-73; 4 Leads; Body 6.7 x 7.3 mm, inc. leads (LxW max))
pins: 1 GND, 2 VOUT, 3 VIN

## LED 0603 BLUE
designator D?
10 Price  RMB: 0.2; 1000 Price  RMB: 0.1; Manufacturers: *
footprint LED0603-BLUE (Footprint not found)
pins: 1, 2

## LED 0603 GREEN
designator D?
10 Price  RMB: 0.2; 1000 Price  RMB: 0.1; Manufacturers: *
footprint LED0603-GREEN (Footprint not found)
pins: 1, 2

## LED 0603 RED
designator D?
10 Price  RMB: 0.2; 1000 Price  RMB: 0.1; Manufacturers: *
footprint LED0603-RED (Footprint not found)
pins: 1, 2

## LED 0603 WHITE
designator D?
10 Price  RMB: 0.2; 1000 Price  RMB: 0.1; Manufacturers: *
footprint LED0603-WHITE
pins: 1, 2

## LM75A
designator U?
footprint SOP-8
pins: 1 SDA, 2 SCL, 3 OS, 4 GND, 5 A2, 6 A1, 7 A0, 8 VCC

## LM2576-5.0
designator U?
SIMPLE SWITCHER  Power Converter
pins: 1 INPUT, 2 OUTPUT, 3 GND, 4 FEEDBACK, 5 ~{ON}/OFF, 6 GND

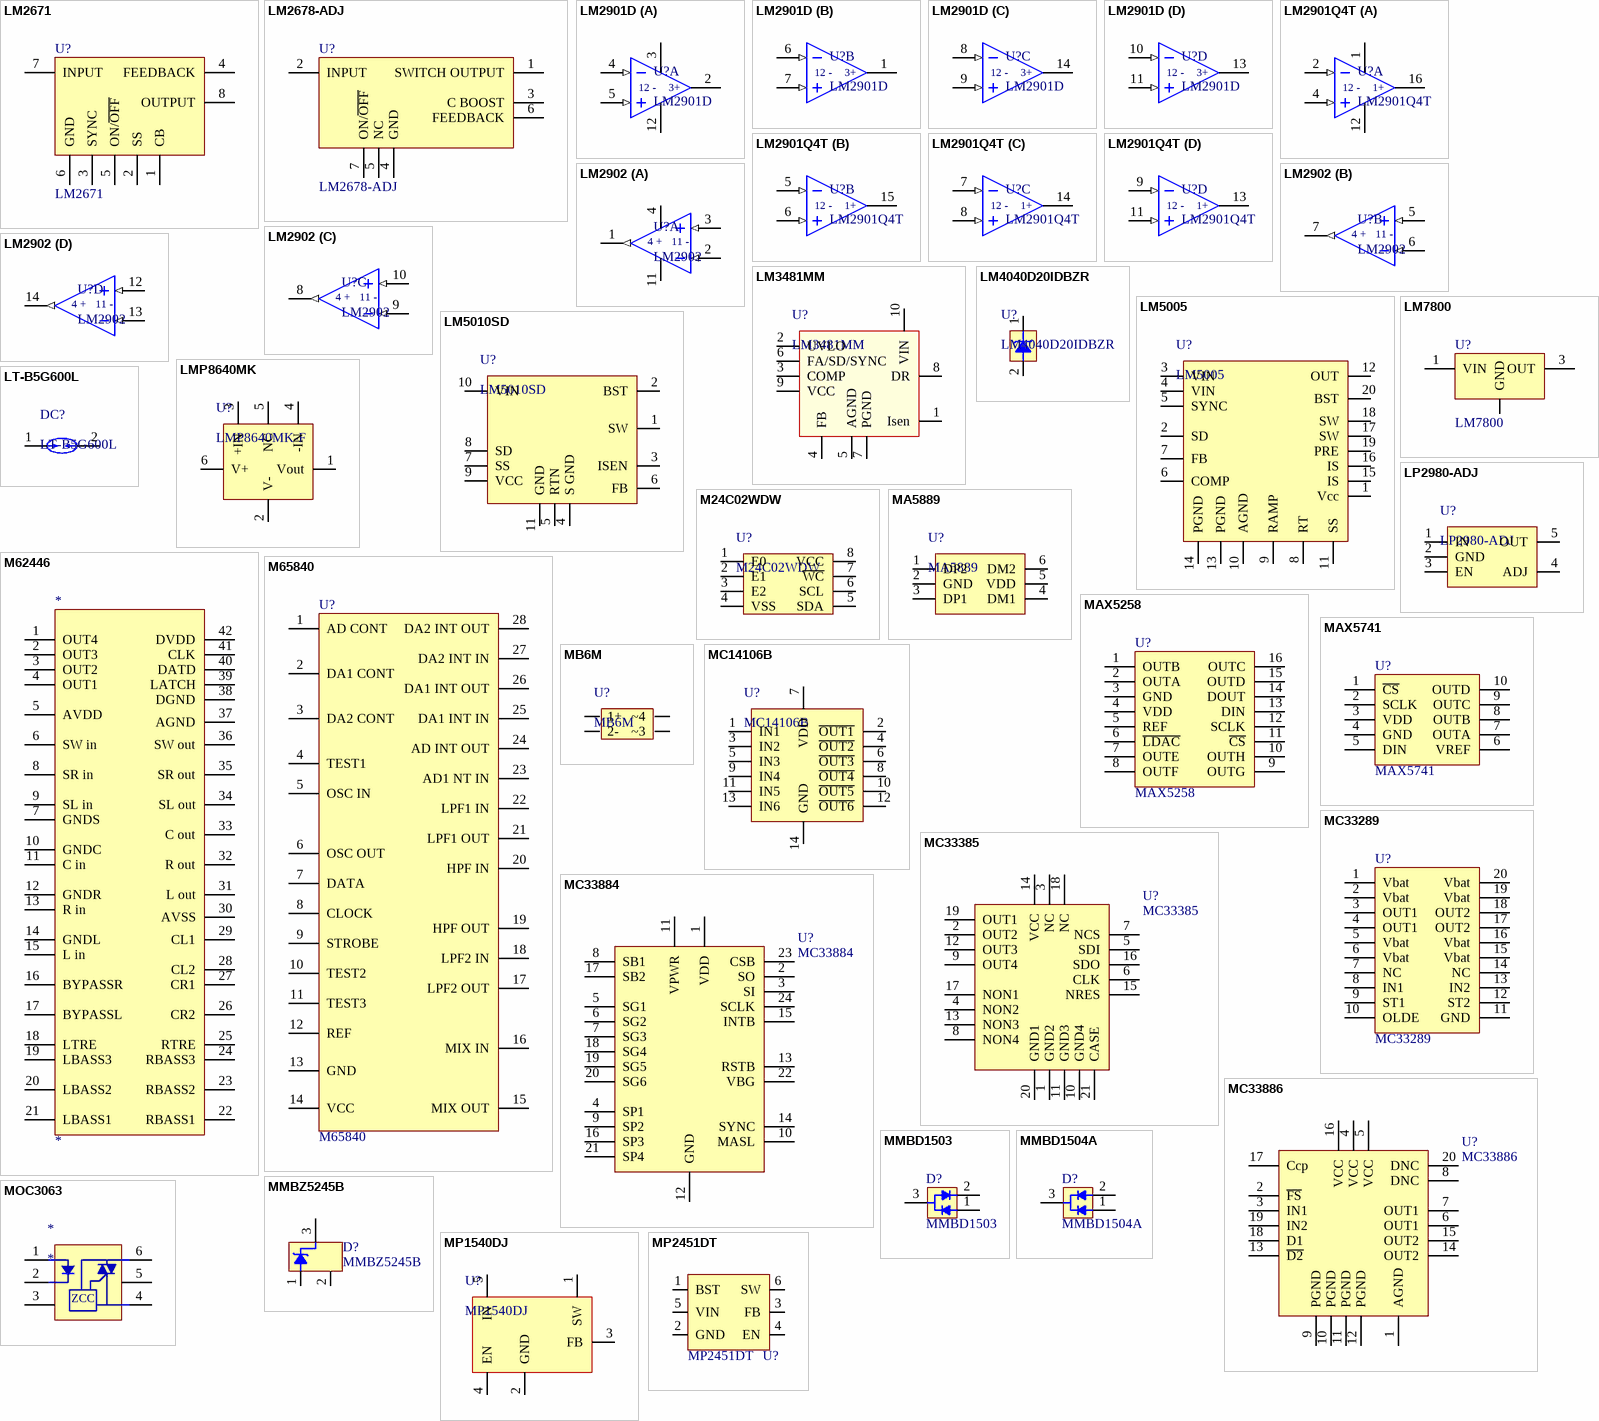
[diagram p4: symbols LM2671 to MP2451DT]

## LM2671
designator U?
footprint SOP-8
pins: 1 CB, 2 SS, 3 SYNC, 4 FEEDBACK, 5 ON/~{OFF}, 6 GND, 7 INPUT, 8 OUTPUT

## LM2678-ADJ
designator U?
SIMPLE SWITCHER  Power Converter
footprint TO-263S (5-Lead TO-263 Surface Mount Package (S))
pins: 1 SWITCH OUTPUT, 2 INPUT, 3 C BOOST, 4 GND, 5 NC, 6 FEEDBACK, 7 ON/~{OFF}

## LM2901D
designator U?
Low-power quad voltage comparator; Manufacturers: ST; 1000 Price  RMB: 0.9; 10 Price  RMB: 1.5
footprint SOP-14
part A pins: 2 OUT, 3 VCC+, 4 IN- (in), 5 IN+ (in), 12 VCC-
part B pins: 1 OUT, 6 IN- (in), 7 IN+ (in)
part C pins: 8 IN+ (in), 9 IN- (in), 14 OUT
part D pins: 10 IN- (in), 11 IN+ (in), 13 OUT
part A text: 12 -; 3+
part B text: 12 -; 3+
part C text: 12 -; 3+
part D text: 12 -; 3+

## LM2901Q4T
designator U?
Low-power quad voltage comparator; Manufacturers: ST; 1000 Price  RMB: 0.9; 10 Price  RMB: 1.5
footprint QFN-16
part A pins: 1 VCC+, 2 IN-1 (in), 4 IN+1 (in), 12 VCC-, 16 OUT1
part B pins: 5 IN-2 (in), 6 IN+2 (in), 15 OUT2
part C pins: 7 IN-3 (in), 8 IN+3 (in), 14 OUT3
part D pins: 9 IN-4 (in), 11 IN+4 (in), 13 OUT4
part A text: 12 -; 1+
part B text: 12 -; 1+
part C text: 12 -; 1+
part D text: 12 -; 1+

## LM2902
designator U?
Operational Amplifiers; Manufacturers: TI; 10 Price  RMB: 1; 1000 Price  RMB: 0.5
footprint SOP-14
footprint TSSOP-14 (Footprint not found)
part A pins: 1 OUT (out), 2 IN- (in), 3 IN+ (in), 4 V+, 11 V-
part B pins: 5 IN+ (in), 6 IN- (in), 7 OUT (out)
part C pins: 8 OUT (out), 9 IN- (in), 10 IN+ (in)
part D pins: 12 IN+ (in), 13 IN- (in), 14 OUT (out)
part A text: 4 +; 11 -
part B text: 4 +; 11 -
part C text: 4 +; 11 -
part D text: 4 +; 11 -

## LM3481MM
designator U?
High-Efficiency Controller for Boost, SEPIC and Flyback DC-DC Converters; Manufacturers: TI; 10 Price  RMB: *; 1000 Price  RMB: *
pins: 1 Isen, 2 UVLO, 3 COMP, 4 FB, 5 AGND, 6 FA/SD/SYNC, 7 PGND, 8 DR, 9 VCC, 10 VIN

## LM4040D20IDBZR
designator U?
2.048V Shunt VoltageReferences; Manufacturers: TI; 1000 Price  RMB: 0.77; 10 Price  RMB: 1.26
footprint SOT23-3
pins: 1 A, 2 K

## LM5005
designator U?
pins: 1 Vcc, 2 SD, 3 VIN, 4 VIN, 5 SYNC, 6 COMP, 7 FB, 8 RT, 9 RAMP, 10 AGND, 11 SS, 12 OUT, 13 PGND, 14 PGND, 15 IS, 16 IS, 17 SW, 18 SW, 19 PRE, 20 BST

## LM5010SD
designator U?
High-Voltage 1-A Step-Down Switching Regulator; Manufacturers: TI; 1000 Price  RMB: 12.5; 10 Price  RMB: 15
pins: 1 SW, 2 BST, 3 ISEN, 4 S GND, 5 RTN, 6 FB, 7 SS, 8 SD, 9 VCC, 10 VIN, 11 GND

## LM7800
designator U?
footprint DPAK
pins: 1 VIN, 2 GND, 3 OUT

## LMP8640MK
designator U?, comment LMP8640MK-F
Precision High Voltage Current Sense Amplifiers; Manufacturers: TI; 1000 Price  RMB: 6.29; 10 Price  RMB: 16
footprint SOT23-6
pins: 1 Vout, 2 V-, 3 +IN, 4 -IN, 5 NC, 6 V+

## LP2980-ADJ
designator U?
LP2980-ADJ Micropower 50 mA Ultra Low-Dropout  Adjustable Voltage Regulator; Manufacturers: TI; 10 Price  RMB: 1.7; 1000 Price  RMB: 1
footprint SOT23-5
pins: 1 IN, 2 GND, 3 EN, 4 ADJ, 5 OUT

## LT-B5G600L
designator DC?
pins: 1, 2

## M24C02WDW
designator U?
Serial I²C bus EEPROMs; Manufacturers: ST; 1000 Price  RMB: 0.5; 10 Price  RMB: 1
footprint TSSOP-8
pins: 1 E0, 2 E1, 3 E2, 4 VSS, 5 SDA, 6 SCL, 7 ~{WC}, 8 VCC

## M62446
designator *
pins: 1 OUT4, 2 OUT3, 3 OUT2, 4 OUT1, 5 AVDD, 6 SW in, 7 GNDS, 8 SR in, 9 SL in, 10 GNDC, 11 C in, 12 GNDR, 13 R in, 14 GNDL, 15 L in, 16 BYPASSR, 17 BYPASSL, 18 LTRE, 19 LBASS3, 20 LBASS2, 21 LBASS1, 22 RBASS1, 23 RBASS2, 24 RBASS3, 25 RTRE, 26 CR2, 27 CR1, 28 CL2, 29 CL1, 30 AVSS, 31 L out, 32 R out, 33 C out, 34 SL out, 35 SR out, 36 SW out, 37 AGND, 38 DGND, 39 LATCH, 40 DATD, 41 CLK, 42 DVDD

## M65840
designator U?
pins: 1 AD CONT, 2 DA1 CONT, 3 DA2 CONT, 4 TEST1, 5 OSC IN, 6 OSC OUT, 7 DATA, 8 CLOCK, 9 STROBE, 10 TEST2, 11 TEST3, 12 REF, 13 GND, 14 VCC, 15 MIX OUT, 16 MIX IN, 17 LPF2 OUT, 18 LPF2 IN, 19 HPF OUT, 20 HPF IN, 21 LPF1 OUT, 22 LPF1 IN, 23 AD1 NT IN, 24 AD INT OUT, 25 DA1 INT IN, 26 DA1 INT OUT, 27 DA2 INT IN, 28 DA2 INT OUT

## MA5889
designator U?
USB Fast Charging Controller; Manufacturers: MOAI Ltd; 10 Price  RMB: 2; 1000 Price  RMB: 1.5
footprint SOT23-6
pins: 1 DP2, 2 GND, 3 DP1, 4 DM1, 5 VDD, 6 DM2

## MAX5258
designator U?
pins: 1 OUTB, 2 OUTA, 3 GND, 4 VDD, 5 REF, 6 ~{LDAC}, 7 OUTE, 8 OUTF, 9 OUTG, 10 OUTH, 11 ~{CS}, 12 SCLK, 13 DIN, 14 DOUT, 15 OUTD, 16 OUTC

## MAX5741
designator U?
pins: 1 ~{CS}, 2 SCLK, 3 VDD, 4 GND, 5 DIN, 6 VREF, 7 OUTA, 8 OUTB, 9 OUTC, 10 OUTD

## MB6M
designator U?
footprint MB6M
pins: 1 1+, 2 2-, 3 ~3, 4 ~4

## MC14106B
designator U?
footprint SOP-14
pins: 1 IN1, 2 ~{OUT1}, 3 IN2, 4 ~{OUT2}, 5 IN3, 6 ~{OUT3}, 7 VDD, 8 ~{OUT4}, 9 IN4, 10 ~{OUT5}, 11 IN5, 12 ~{OUT6}, 13 IN6, 14 GND

## MC33289
designator U?
footprint SOP-20
pins: 1 Vbat, 2 Vbat, 3 OUT1, 4 OUT1, 5 Vbat, 6 Vbat, 7 NC, 8 IN1, 9 ST1, 10 OLDE, 11 GND, 12 ST2, 13 IN2, 14 NC, 15 Vbat, 16 Vbat, 17 OUT2, 18 OUT2, 19 Vbat, 20 Vbat

## MC33385
designator U?
pins: 1 GND2, 2 OUT2, 3 NC, 4 NON2, 5 SDI, 6 CLK, 7 NCS, 8 NON4, 9 OUT4, 10 GND4, 11 GND3, 12 OUT3, 13 NON3, 14 VCC, 15 NRES, 16 SDO, 17 NON1, 18 NC, 19 OUT1, 20 GND1, 21 CASE

## MC33884
designator U?
pins: 1 VDD, 2 SO, 3 SI, 4 SP1, 5 SG1, 6 SG2, 7 SG3, 8 SB1, 9 SP2, 10 MASL, 11 VPWR, 12 GND, 13 RSTB, 14 SYNC, 15 INTB, 16 SP3, 17 SB2, 18 SG4, 19 SG5, 20 SG6, 21 SP4, 22 VBG, 23 CSB, 24 SCLK

## MC33886
designator U?
pins: 1 AGND, 2 ~{FS}, 3 IN1, 4 VCC, 5 VCC, 6 OUT1, 7 OUT1, 8 DNC, 9 PGND, 10 PGND, 11 PGND, 12 PGND, 13 ~{D2}, 14 OUT2, 15 OUT2, 16 VCC, 17 Ccp, 18 D1, 19 IN2, 20 DNC

## MMBD1503
designator D?
footprint SOT-23
pins: 1, 2, 3

## MMBD1504A
designator D?
footprint SOT-23
pins: 1, 2, 3

## MMBZ5245B
designator D?
footprint SOT-23
pins: 1, 2, 3

## MOC3063
designator *
pins: 1, 2, 3, 4, 5, 6
text: ZCC

## MP1540DJ
designator U?
1.3MHz 18V Step-Up Converter; Manufacturers: MPS; 10 Price  RMB: 1; 1000 Price  RMB: 0.53
footprint SOT23-5
pins: 1 SW, 2 GND, 3 FB, 4 EN, 5 IN

## MP2451DT
designator U?
36V, 2MHz, 0.6A   Step-Down Converter; Manufacturers: MPS; Manufacturer's Footprint: SOT23-6; 10 Price  RMB: 1.72; 1000 Price  RMB: 1.14
footprint SOT23-6
pins: 1 BST, 2 GND, 3 FB, 4 EN, 5 VIN, 6 SW

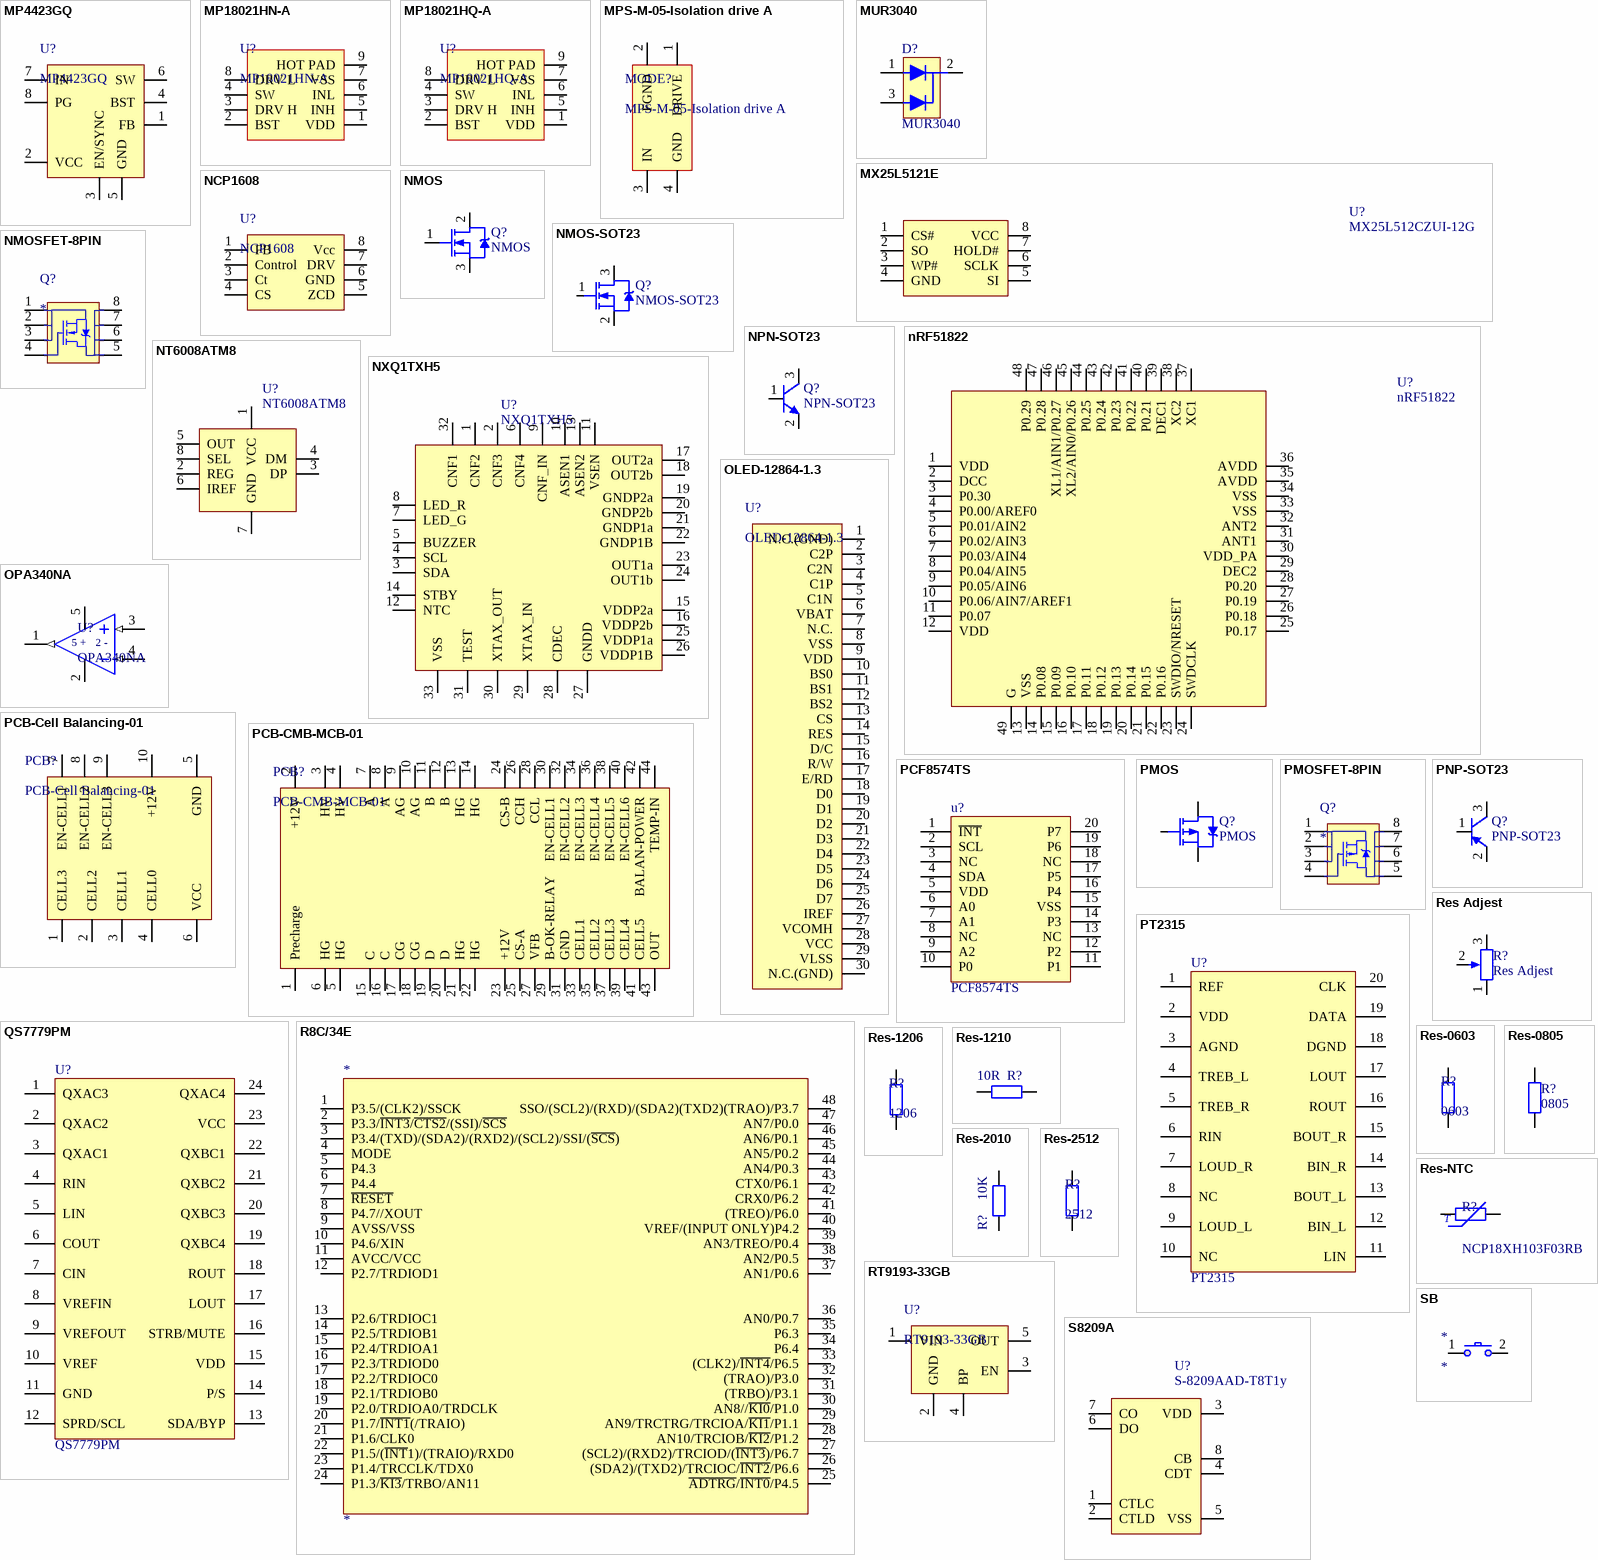
[diagram p5: symbols MP4423GQ to SB]

## MP4423GQ
designator U?
High Efficiency 3A, 36V,   Synchronous Step Down Converter; Manufacturers: MPS; Manufacturer's Footprint: QFN-8; 10 Price  RMB: 10; 1000 Price  RMB: 6
footprint QFN-8
pins: 1 FB, 2 VCC, 3 EN/SYNC, 4 BST, 5 GND, 6 SW, 7 IN, 8 PG

## MP18021HN-A
designator U?
100V 2.5A High Frequency Half-Bridge Gate Driver; Manufacturers: MPS; Manufacturer's Footprint: SOIC8E; 10 Price  RMB: 4; 1000 Price  RMB: 2
footprint R-PDSO-G8
pins: 1 VDD, 2 BST, 3 DRV H, 4 SW, 5 INH, 6 INL, 7 VSS, 8 DRV L, 9 HOT PAD

## MP18021HQ-A
designator U?
100V 2.5A High Frequency Half-Bridge Gate Driver; Manufacturers: MPS; Manufacturer's Footprint: QFN8; 10 Price  RMB: 8; 1000 Price  RMB: 9
footprint QFN-8-PD
pins: 1 VDD, 2 BST, 3 DRV H, 4 SW, 5 INH, 6 INL, 7 VSS, 8 DRV L, 9 HOT PAD

## MPS-M-05-Isolation drive A
designator MODE?
pins: 1 DRIVE, 2 FGND, 3 IN, 4 GND

## MUR3040
designator D?
pins: 1, 2, 3

## MX25L5121E
designator U?, comment MX25L512CZUI-12G
512K-BIT [x 1] CMOS SERIAL FLASH MEMORY; Manufacturers: Macronix; Manufacturer's Footprint: 8-USON
footprint USON-8 (Footprint not found)
pins: 1 CS#, 2 SO, 3 WP#, 4 GND, 5 SI, 6 SCLK, 7 HOLD#, 8 VCC

## NCP1608
designator U?
footprint SOP-8
pins: 1 FB, 2 Control, 3 Ct, 4 CS, 5 ZCD, 6 GND, 7 DRV, 8 Vcc

## NMOS
designator Q?
1000 Price  RMB: *; 10 Price  RMB: *; Manufacturer's Footprint: *
footprint D2PAK (Body 15.5mmX 10.5 mm)
pins: 1 G, 2 D, 3 S

## NMOS-SOT23
designator Q?
NMOS  SOT23; 1000 Price  RMB: *; 10 Price  RMB: *; Manufacturer's Footprint: SOT23
footprint SOT23-3
pins: 1 G, 2 D, 3 S

## NMOSFET-8PIN
designator Q?
NMOSFET; Manufacturers: *; 1000 Price  RMB: *; 10 Price  RMB: *
footprint SOP-8
pins: 1 S, 2 S, 3 S, 4 G, 5 D, 6 D, 7 D, 8 D

## NPN-SOT23
designator Q?
SOT-23 Plastic -Encapsulate Transistors; 1000 Price  RMB: *; 10 Price  RMB: *; Manufacturers: *; Manufacturer's Footprint: *
footprint SOT-23
pins: 1, 2, 3

## nRF51822
designator U?
Multiprotocol Bluetooth® low energy/2.4 GHz RF System on Chip; Manufacturers: NORDIC; Manufacturer's Footprint: QFN48
footprint QFN-48 (Footprint not found)
pins: 1 VDD, 2 DCC, 3 P0.30, 4 P0.00/AREF0, 5 P0.01/AIN2, 6 P0.02/AIN3, 7 P0.03/AIN4, 8 P0.04/AIN5, 9 P0.05/AIN6, 10 P0.06/AIN7/AREF1, 11 P0.07, 12 VDD, 13 VSS, 14 P0.08, 15 P0.09, 16 P0.10, 17 P0.11, 18 P0.12, 19 P0.13, 20 P0.14, 21 P0.15, 22 P0.16, 23 SWDIO/NRESET, 24 SWDCLK, 25 P0.17, 26 P0.18, 27 P0.19, 28 P0.20, 29 DEC2, 30 VDD_PA, 31 ANT1, 32 ANT2, 33 VSS, 34 VSS, 35 AVDD, 36 AVDD, 37 XC1, 38 XC2, 39 DEC1, 40 P0.21, 41 P0.22, 42 P0.23, 43 P0.24, 44 P0.25, 45 XL2/AIN0/P0.26, 46 XL1/AIN1/P0.27, 47 P0.28, 48 P0.29, 49 G

## NT6008ATM8
designator U?
Smart USB Charging Port Controller; Manufacturers: EOSMEM; Manufacturer's Footprint: TSOT23-8L; 1000 Price  RMB: 2.4; 10 Price  RMB: 3
footprint TSOT23-8 (Footprint not found)
pins: 1 VCC, 2 REG, 3 DP, 4 DM, 5 OUT, 6 IREF, 7 GND, 8 SEL

## NXQ1TXH5
designator U?
One-chip 5 V Qi wireless transmitter; Manufacturers: NXP; Manufacturer's Footprint: HVQFN32; 1000 Price  RMB: 18; 10 Price  RMB: 32
footprint QFN-32 (Footprint not found)
pins: 1 CNF2, 2 CNF3, 3 SDA, 4 SCL, 5 BUZZER, 6 CNF4, 7 LED_G, 8 LED_R, 9 CNF_IN, 10 ASEN1, 11 VSEN, 12 NTC, 13 ASEN2, 14 STBY, 15 VDDP2a, 16 VDDP2b, 17 OUT2a, 18 OUT2b, 19 GNDP2a, 20 GNDP2b, 21 GNDP1a, 22 GNDP1B, 23 OUT1a, 24 OUT1b, 25 VDDP1a, 26 VDDP1B, 27 GNDD, 28 CDEC, 29 XTAX_IN, 30 XTAX_OUT, 31 TEST, 32 CNF1, 33 VSS

## OLED-12864-1.3
designator U?
footprint OLED-12864-1.3
pins: 1 N.C.(GND), 2 C2P, 3 C2N, 4 C1P, 5 C1N, 6 VBAT, 7 N.C., 8 VSS, 9 VDD, 10 BS0, 11 BS1, 12 BS2, 13 CS, 14 RES, 15 D/C, 16 R/W, 17 E/RD, 18 D0, 19 D1, 20 D2, 21 D3, 22 D4, 23 D5, 24 D6, 25 D7, 26 IREF, 27 VCOMH, 28 VCC, 29 VLSS, 30 N.C.(GND)

## OPA340NA
designator U?
SINGLE-SUPPLY, RAIL-TO-RAIL  OPERATIONAL AMPLIFIERS; Manufacturers: TI; 1000 Price  RMB: 3; 10 Price  RMB: 5
footprint SOT23-5
pins: 1 OUT (out), 2 V-, 3 IN+ (in), 4 IN- (in), 5 V+
text: 5 +; 2 -

## PCB-Cell Balancing-01
designator PCB?
footprint PCB-Cell Balancing-01
pins: 1 CELL3, 2 CELL2, 3 CELL1, 4 CELL0, 5 GND, 6 VCC, 7 EN-CELL1, 8 EN-CELL2, 9 EN-CELL3, 10 +12V

## PCB-CMB-MCB-01
designator PCB?
footprint PCB-CMB-MCB-01
pins: 1 Precharge, 2 +12V, 3 HV, 4 HV, 5 HG, 6 HG, 7 A, 8 A, 9 AG, 10 AG, 11 B, 12 B, 13 HG, 14 HG, 15 C, 16 C, 17 CG, 18 CG, 19 D, 20 D, 21 HG, 22 HG, 23 +12V, 24 CS-B, 25 CS-A, 26 CCH, 27 VFB, 28 CCL, 29 B-OK-RELAY, 30 EN-CELL1, 31 GND, 32 EN-CELL2, 33 CELL1, 34 EN-CELL3, 35 CELL2, 36 EN-CELL4, 37 CELL3, 38 EN-CELL5, 39 CELL4, 40 EN-CELL6, 41 CELL5, 42 BALAN-POWER, 43 OUT, 44 TEMP-IN

## PCF8574TS
designator u?
footprint SSOP-20 (Footprint not found)
pins: 1 ~{INT}, 2 SCL, 3 NC, 4 SDA, 5 VDD, 6 A0, 7 A1, 8 NC, 9 A2, 10 P0, 11 P1, 12 P2, 13 NC, 14 P3, 15 VSS, 16 P4, 17 P5, 18 NC, 19 P6, 20 P7

## PMOS
designator Q?
Manufacturer's Footprint: *; 1000 Price  RMB: *; 10 Price  RMB: *; Manufacturers: *
footprint D2PAK (Body 15.5mmX 10.5 mm)
pins: 1 G, 2 D, 3 S

## PMOSFET-8PIN
designator Q?
Manufacturer's Footprint: *; Manufacturers: *; 1000 Price  RMB: *
pins: 1 S, 2 S, 3 S, 4 G, 5 D, 6 D, 7 D, 8 D

## PNP-SOT23
designator Q?
SOT-23 Plastic -Encapsulate Transistors; Manufacturer's Footprint: *; 10 Price  RMB: *; 1000 Price  RMB: *; Manufacturers: *
footprint SOT23-3
pins: 1, 2, 3

## PT2315
designator U?
pins: 1 REF, 2 VDD, 3 AGND, 4 TREB_L, 5 TREB_R, 6 RIN, 7 LOUD_R, 8 NC, 9 LOUD_L, 10 NC, 11 LIN, 12 BIN_L, 13 BOUT_L, 14 BIN_R, 15 BOUT_R, 16 ROUT, 17 LOUT, 18 DGND, 19 DATA, 20 CLK

## QS7779PM
designator U?
pins: 1 QXAC3, 2 QXAC2, 3 QXAC1, 4 RIN, 5 LIN, 6 COUT, 7 CIN, 8 VREFIN, 9 VREFOUT, 10 VREF, 11 GND, 12 SPRD/SCL, 13 SDA/BYP, 14 P/S, 15 VDD, 16 STRB/MUTE, 17 LOUT, 18 ROUT, 19 QXBC4, 20 QXBC3, 21 QXBC2, 22 QXBC1, 23 VCC, 24 QXAC4

## R8C/34E
designator *
pins: 1 P3.5/(CLK2)/SSCK, 2 P3.3/~{INT3}/~{CTS2}/(SSI)/~{SCS}, 3 P3.4/(TXD)/(SDA2)/(RXD2)/(SCL2)/SSI/(~{SCS}), 4 MODE, 5 P4.3, 6 P4.4, 7 ~{RESET}, 8 P4.7//XOUT, 9 AVSS/VSS, 10 P4.6/XIN, 11 AVCC/VCC, 12 P2.7/TRDIOD1, 13 P2.6/TRDIOC1, 14 P2.5/TRDIOB1, 15 P2.4/TRDIOA1, 16 P2.3/TRDIOD0, 17 P2.2/TRDIOC0, 18 P2.1/TRDIOB0, 19 P2.0/TRDIOA0/TRDCLK, 20 P1.7/~{INT1}(/TRAIO), 21 P1.6/CLK0, 22 P1.5/(~{INT}1)/(TRAIO)/RXD0, 23 P1.4/TRCCLK/TDX0, 24 P1.3/~{KI3}/TRBO/AN11, 25 ~{ADTRG}/~{INT0}/P4.5, 26 (SDA2)/(TXD2)/TRCIOC/~{INT2}/P6.6, 27 (SCL2)/(RXD2)/TRCIOD/(~{INT3})/P6.7, 28 AN10/TRCIOB/~{KI2}/P1.2, 29 AN9/TRCTRG/TRCIOA/~{KI1}/P1.1, 30 AN8//~{KI0}/P1.0, 31 (TRBO)/P3.1, 32 (TRAO)/P3.0, 33 (CLK2)/~{IN}~{T4}/P6.5, 34 P6.4, 35 P6.3, 36 AN0/P0.7, 37 AN1/P0.6, 38 AN2/P0.5, 39 AN3/TREO/P0.4, 40 VREF/(INPUT ONLY)P4.2, 41 (TREO)/P6.0, 42 CRX0/P6.2, 43 CTX0/P6.1, 44 AN4/P0.3, 45 AN5/P0.2, 46 AN6/P0.1, 47 AN7/P0.0, 48 SSO/(SCL2)/(RXD)/(SDA2)(TXD2)(TRAO)/P3.7

## Res Adjest
designator R?
footprint BAORES3266 (Body 7X7mm)
pins: 1, 2, 3

## Res-0603
designator R?, comment 0603
Thick Film Chip Resistors; Manufacturers: UniOhm; 10 Price  RMB: 0.01; 1000 Price  RMB: 0.003; Tolerance: 5%; Manufacturer's Footprint: 0603
footprint 0603R
pins: 1, 2

## Res-0805
designator R?, comment 0805
Thick Film Chip Resistors; Manufacturers: UniOhm; 10 Price  RMB: 0.01; 1000 Price  RMB: 0.005; Tolerance: 5%; Manufacturer's Footprint: 0805
footprint 0805R
pins: 1, 2

## Res-1206
designator R?, comment 1206
Thick Film Chip Resistors; Manufacturers: UniOhm; 10 Price  RMB: 0.015; 1000 Price  RMB: 0.01; Tolerance: 5%; Manufacturer's Footprint: 1206
footprint 1206R
pins: 1, 2

## Res-1210
designator R?, comment 10R
Thick Film Chip Resistors; Manufacturers: UniOhm; Manufacturer's Footprint: 1210; 10 Price  RMB: 0.03; 1000 Price  RMB: 0.02; Tolerance: 5%
footprint 1210R (Footprint not found)
pins: 1, 2

## Res-2010
designator R?, comment 10K
Thick Film Chip Resistors; Manufacturers: UniOhm; Manufacturer's Footprint: 2010; 10 Price  RMB: 0.05; 1000 Price  RMB: 0.037; Tolerance: 5%
footprint 2010 (Body 5.08mmX2.54mm)
pins: 1, 2

## Res-2512
designator R?, comment 2512
Thick Film Chip Resistors; Manufacturers: UniOhm; 10 Price  RMB: 0.17; 1000 Price  RMB: 0.06; Tolerance: 5%; Manufacturer's Footprint: 2512
footprint 2512 (Body 6.3mmX3.2mm)
pins: 1, 2

## Res-NTC
designator R?, comment NCP18XH103F03RB
NTC; Manufacturers: murata; Tolerance: 1%; 1000 Price  RMB: 0.15; 10 Price  RMB: 0.25
footprint 0603 (Body 1.6mmX0.8mm)
pins: 1, 2
text: T

## RT9193-33GB
designator U?
300mA, Ultra-Low Noise, Ultra-Fast CMOS LDO Regulator; Manufacturers: Richtek; 10 Price  RMB: *; 1000 Price  RMB: *
footprint SOT23-5
pins: 1 VIN, 2 GND, 3 EN, 4 BP, 5 OUT

## S8209A
designator U?, comment S-8209AAD-T8T1y
Cell Lithium-Ion Battery  Protection IC With cell-balancing; Manufacturers: SII Semiconductor; Manufacturer's Footprint: TSSOP-8; 1000 Price  RMB: 2; 10 Price  RMB: 3
footprint TSSOP-8
pins: 1 CTLC, 2 CTLD, 3 VDD, 4 CDT, 5 VSS, 6 DO, 7 CO, 8 CB

## SB
designator *
pins: 1, 2

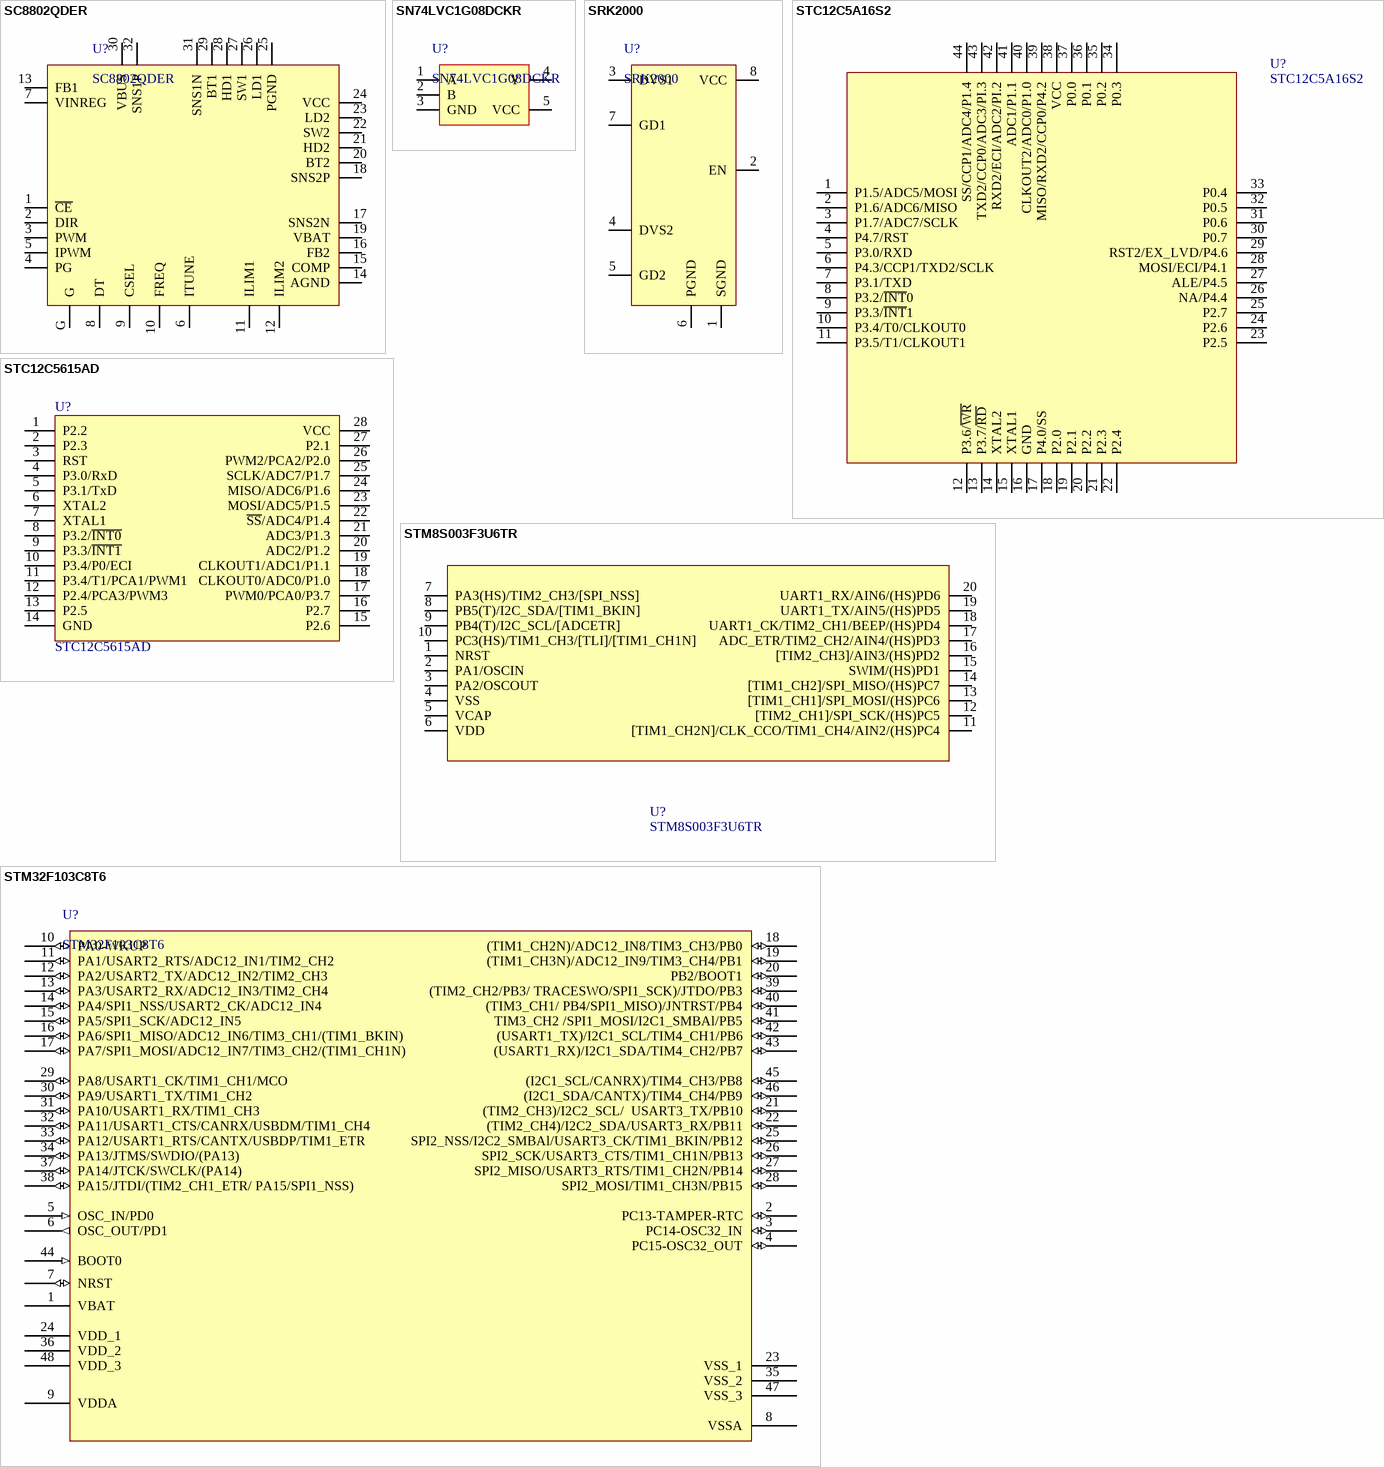
[diagram p6: symbols SC8802QDER to STM32F103C8T6]

## SC8802QDER
designator U?
4 switch buck-boost switching power supply controller; Manufacturers: Southchip Semiconductor Technology; Manufacturer's Footprint: QFN32; 10 Price  RMB: *; 1000 Price  RMB: *
footprint QFN-32L (4mmX4mm)
pins: 1 ~{CE}, 2 DIR, 3 PWM, 4 PG, 5 IPWM, 6 ITUNE, 7 VINREG, 8 DT, 9 CSEL, 10 FREQ, 11 ILIM1, 12 ILIM2, 13 FB1, 14 AGND, 15 COMP, 16 FB2, 17 SNS2N, 18 SNS2P, 19 VBAT, 20 BT2, 21 HD2, 22 SW2, 23 LD2, 24 VCC, 25 PGND, 26 LD1, 27 SW1, 28 HD1, 29 BT1, 30 VBUS, 31 SNS1N, 32 SNS1P, G

## SN74LVC1G08DCKR
designator U?
SN74LVC1G08 Single 2-Input Positive-AND Gate; Manufacturers: TI; Manufacturer's Footprint: SC70; 10 Price  RMB: 0.4; 1000 Price  RMB: 0.25
footprint SOT-323-5 (Footprint not found)
pins: 1 A, 2 B, 3 GND, 4 Y, 5 VCC

## SRK2000
designator U?
footprint SOP-8
pins: 1 SGND, 2 EN, 3 DVS1, 4 DVS2, 5 GD2, 6 PGND, 7 GD1, 8 VCC

## STC12C5A16S2
designator U?
footprint LQFP-44 (Body 12mmX12mmX1.2mm)
pins: 1 P1.5/ADC5/MOSI, 2 P1.6/ADC6/MISO, 3 P1.7/ADC7/SCLK, 4 P4.7/RST, 5 P3.0/RXD, 6 P4.3/CCP1/TXD2/SCLK, 7 P3.1/TXD, 8 P3.2/~{INT}0, 9 P3.3/~{INT}1, 10 P3.4/T0/CLKOUT0, 11 P3.5/T1/CLKOUT1, 12 P3.6/~{WR}, 13 P3.7/~{RD}, 14 XTAL2, 15 XTAL1, 16 GND, 17 P4.0/SS, 18 P2.0, 19 P2.1, 20 P2.2, 21 P2.3, 22 P2.4, 23 P2.5, 24 P2.6, 25 P2.7, 26 NA/P4.4, 27 ALE/P4.5, 28 MOSI/ECI/P4.1, 29 RST2/EX_LVD/P4.6, 30 P0.7, 31 P0.6, 32 P0.5, 33 P0.4, 34 P0.3, 35 P0.2, 36 P0.1, 37 P0.0, 38 VCC, 39 MISO/RXD2/CCP0/P4.2, 40 CLKOUT2/ADC0/P1.0, 41 ADC1/P1.1, 42 RXD2/ECI/ADC2/PI.2, 43 TXD2/CCP0/ADC3/PI.3, 44 SS/CCP1/ADC4/P1.4

## STC12C5615AD
designator U?
pins: 1 P2.2, 2 P2.3, 3 RST, 4 P3.0/RxD, 5 P3.1/TxD, 6 XTAL2, 7 XTAL1, 8 P3.2/~{INT0}, 9 P3.3/~{INT1}, 10 P3.4/P0/ECI, 11 P3.4/T1/PCA1/PWM1, 12 P2.4/PCA3/PWM3, 13 P2.5, 14 GND, 15 P2.6, 16 P2.7, 17 PWM0/PCA0/P3.7, 18 CLKOUT0/ADC0/P1.0, 19 CLKOUT1/ADC1/P1.1, 20 ADC2/P1.2, 21 ADC3/P1.3, 22 ~{SS}/ADC4/P1.4, 23 MOSI/ADC5/P1.5, 24 MISO/ADC6/P1.6, 25 SCLK/ADC7/P1.7, 26 PWM2/PCA2/P2.0, 27 P2.1, 28 VCC

## STM8S003F3U6TR
designator U?
Value line, 16 MHz STM8S 8-bit MCU,8 Kbyte Flash, 128 byte data   EEPROM, 10-bit ADC, 3 timers, UART, SPI, I²C; Manufacturers: ST; Manufacturer's Footprint: UFQFPN20; 10 Price  RMB: 3; 1000 Price  RMB: 1.9
footprint QFN-40
pins: 1 NRST, 2 PA1/OSCIN, 3 PA2/OSCOUT, 4 VSS, 5 VCAP, 6 VDD, 7 PA3(HS)/TIM2_CH3/[SPI_NSS], 8 PB5(T)/I2C_SDA/[TIM1_BKIN], 9 PB4(T)/I2C_SCL/[ADCETR], 10 PC3(HS)/TIM1_CH3/[TLI]/[TIM1_CH1N], 11 [TIM1_CH2N]/CLK_CCO/TIM1_CH4/AIN2/(HS)PC4, 12 [TIM2_CH1]/SPI_SCK/(HS)PC5, 13 [TIM1_CH1]/SPI_MOSI/(HS)PC6, 14 [TIM1_CH2]/SPI_MISO/(HS)PC7, 15 SWIM/(HS)PD1, 16 [TIM2_CH3]/AIN3/(HS)PD2, 17 ADC_ETR/TIM2_CH2/AIN4/(HS)PD3, 18 UART1_CK/TIM2_CH1/BEEP/(HS)PD4, 19 UART1_TX/AIN5/(HS)PD5, 20 UART1_RX/AIN6/(HS)PD6

## STM32F103C8T6
designator U?
High-density performance line ARM-based 32-bit MCU; Manufacturers: ST; Manufacturer's Footprint: LQFP48; 10 Price  RMB: 11.22; 1000 Price  RMB: 8.03
footprint LQFP-48 (distance 0.5mm)
pins: 1 VBAT (power), 2 PC13-TAMPER-RTC (io), 3 PC14-OSC32_IN (io), 4 PC15-OSC32_OUT (io), 5 OSC_IN/PD0 (in), 6 OSC_OUT/PD1 (out), 7 NRST (io), 8 VSSA (power), 9 VDDA (power), 10 PA0-WKUP (io), 11 PA1/USART2_RTS/ADC12_IN1/TIM2_CH2 (io), 12 PA2/USART2_TX/ADC12_IN2/TIM2_CH3 (io), 13 PA3/USART2_RX/ADC12_IN3/TIM2_CH4 (io), 14 PA4/SPI1_NSS/USART2_CK/ADC12_IN4 (io), 15 PA5/SPI1_SCK/ADC12_IN5 (io), 16 PA6/SPI1_MISO/ADC12_IN6/TIM3_CH1/(TIM1_BKIN) (io), 17 PA7/SPI1_MOSI/ADC12_IN7/TIM3_CH2/(TIM1_CH1N) (io), 18 (TIM1_CH2N)/ADC12_IN8/TIM3_CH3/PB0 (io), 19 (TIM1_CH3N)/ADC12_IN9/TIM3_CH4/PB1 (io), 20 PB2/BOOT1 (io), 21 (TIM2_CH3)/I2C2_SCL/  USART3_TX/PB10 (io), 22 (TIM2_CH4)/I2C2_SDA/USART3_RX/PB11 (io), 23 VSS_1 (power), 24 VDD_1 (power), 25 SPI2_NSS/I2C2_SMBAl/USART3_CK/TIM1_BKIN/PB12 (io), 26 SPI2_SCK/USART3_CTS/TIM1_CH1N/PB13 (io), 27 SPI2_MISO/USART3_RTS/TIM1_CH2N/PB14 (io), 28 SPI2_MOSI/TIM1_CH3N/PB15 (io), 29 PA8/USART1_CK/TIM1_CH1/MCO (io), 30 PA9/USART1_TX/TIM1_CH2 (io), 31 PA10/USART1_RX/TIM1_CH3 (io), 32 PA11/USART1_CTS/CANRX/USBDM/TIM1_CH4 (io), 33 PA12/USART1_RTS/CANTX/USBDP/TIM1_ETR (io), 34 PA13/JTMS/SWDIO/(PA13) (io), 35 VSS_2 (power), 36 VDD_2 (power), 37 PA14/JTCK/SWCLK/(PA14) (io), 38 PA15/JTDI/(TIM2_CH1_ETR/ PA15/SPI1_NSS) (io), 39 (TIM2_CH2/PB3/ TRACESWO/SPI1_SCK)/JTDO/PB3 (io), 40 (TIM3_CH1/ PB4/SPI1_MISO)/JNTRST/PB4 (io), 41 TIM3_CH2 /SPI1_MOSI/I2C1_SMBAl/PB5 (io), 42 (USART1_TX)/I2C1_SCL/TIM4_CH1/PB6 (io), 43 (USART1_RX)/I2C1_SDA/TIM4_CH2/PB7 (io), 44 BOOT0 (in), 45 (I2C1_SCL/CANRX)/TIM4_CH3/PB8 (io), 46 (I2C1_SDA/CANTX)/TIM4_CH4/PB9 (io), 47 VSS_3 (power), 48 VDD_3 (power)

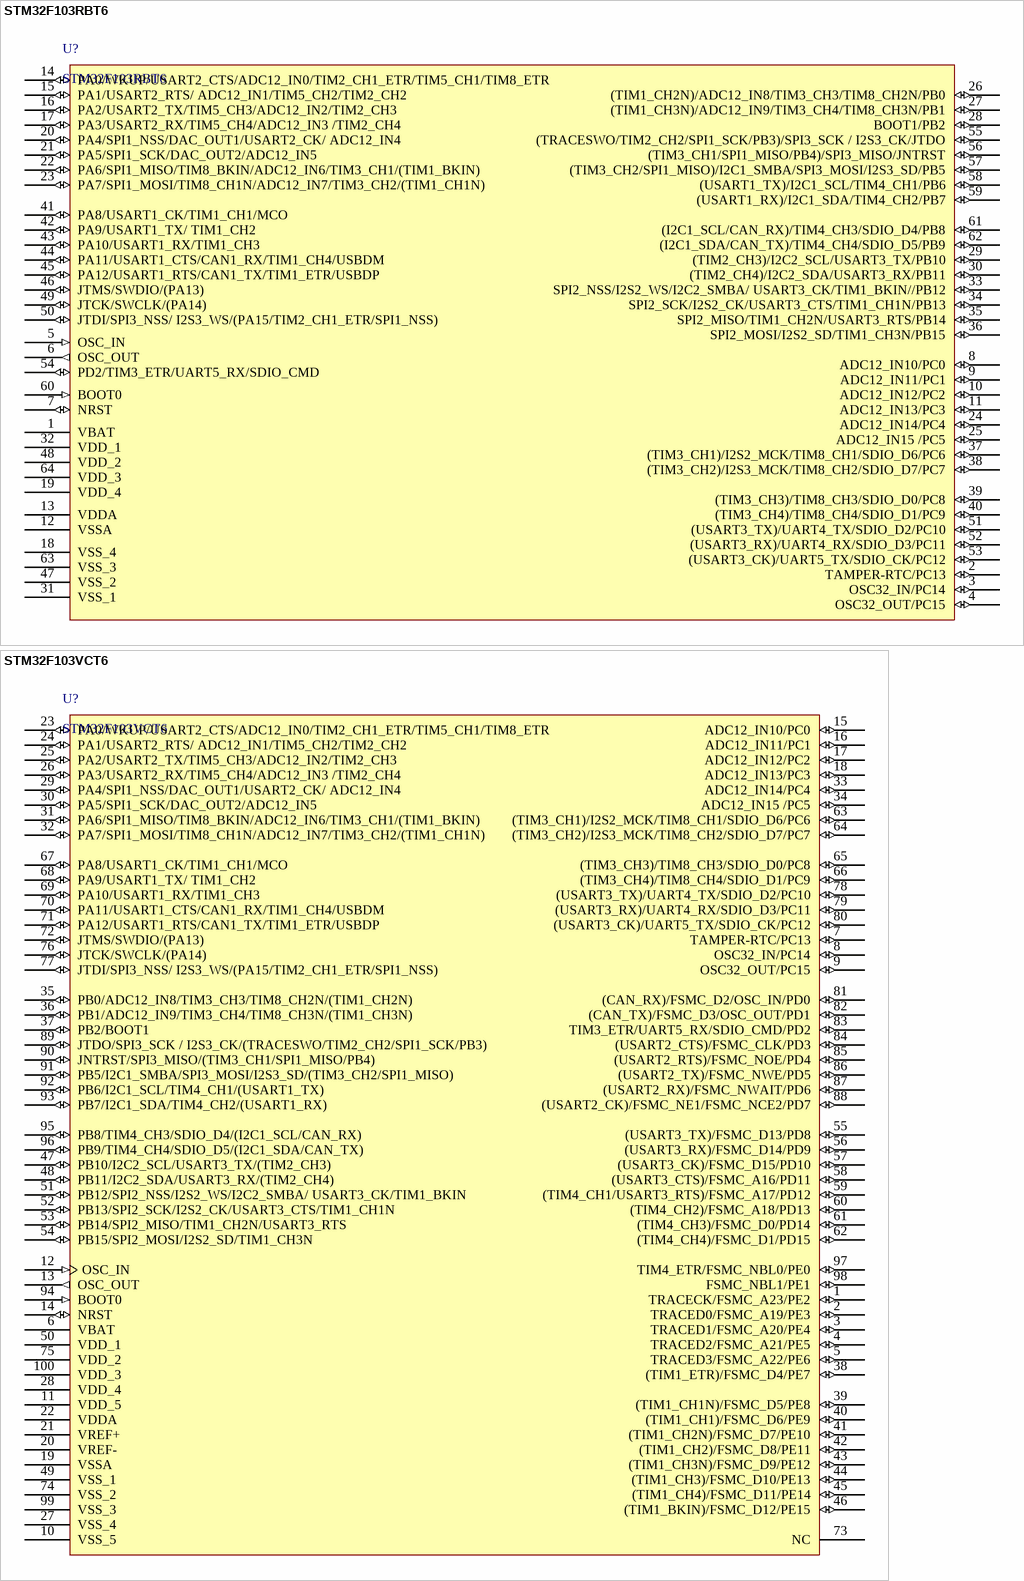
[diagram p7: symbols STM32F103RBT6 to STM32F103VCT6]

## STM32F103RBT6
designator U?
High-density performance line ARM-based 32-bit MCU; Manufacturers: ST; 1000 Price  RMB: 14; 10 Price  RMB: 15; Manufacturer's Footprint: *
footprint TQFP-64
pins: 1 VBAT (power), 2 TAMPER-RTC/PC13 (io), 3 OSC32_IN/PC14 (io), 4 OSC32_OUT/PC15 (io), 5 OSC_IN (in), 6 OSC_OUT (out), 7 NRST (io), 8 ADC12_IN10/PC0 (io), 9 ADC12_IN11/PC1 (io), 10 ADC12_IN12/PC2 (io), 11 ADC12_IN13/PC3 (io), 12 VSSA (power), 13 VDDA (power), 14 PA0/WKUP/USART2_CTS/ADC12_IN0/TIM2_CH1_ETR/TIM5_CH1/TIM8_ETR (io), 15 PA1/USART2_RTS/ ADC12_IN1/TIM5_CH2/TIM2_CH2 (io), 16 PA2/USART2_TX/TIM5_CH3/ADC12_IN2/TIM2_CH3 (io), 17 PA3/USART2_RX/TIM5_CH4/ADC12_IN3 /TIM2_CH4 (io), 18 VSS_4 (power), 19 VDD_4 (power), 20 PA4/SPI1_NSS/DAC_OUT1/USART2_CK/ ADC12_IN4 (io), 21 PA5/SPI1_SCK/DAC_OUT2/ADC12_IN5 (io), 22 PA6/SPI1_MISO/TIM8_BKIN/ADC12_IN6/TIM3_CH1/(TIM1_BKIN) (io), 23 PA7/SPI1_MOSI/TIM8_CH1N/ADC12_IN7/TIM3_CH2/(TIM1_CH1N) (io), 24 ADC12_IN14/PC4 (io), 25 ADC12_IN15 /PC5 (io), 26 (TIM1_CH2N)/ADC12_IN8/TIM3_CH3/TIM8_CH2N/PB0 (io), 27 (TIM1_CH3N)/ADC12_IN9/TIM3_CH4/TIM8_CH3N/PB1 (io), 28 BOOT1/PB2 (io), 29 (TIM2_CH3)/I2C2_SCL/USART3_TX/PB10 (io), 30 (TIM2_CH4)/I2C2_SDA/USART3_RX/PB11 (io), 31 VSS_1 (power), 32 VDD_1 (power), 33 SPI2_NSS/I2S2_WS/I2C2_SMBA/ USART3_CK/TIM1_BKIN//PB12 (io), 34 SPI2_SCK/I2S2_CK/USART3_CTS/TIM1_CH1N/PB13 (io), 35 SPI2_MISO/TIM1_CH2N/USART3_RTS/PB14 (io), 36 SPI2_MOSI/I2S2_SD/TIM1_CH3N/PB15 (io), 37 (TIM3_CH1)/I2S2_MCK/TIM8_CH1/SDIO_D6/PC6 (io), 38 (TIM3_CH2)/I2S3_MCK/TIM8_CH2/SDIO_D7/PC7 (io), 39 (TIM3_CH3)/TIM8_CH3/SDIO_D0/PC8 (io), 40 (TIM3_CH4)/TIM8_CH4/SDIO_D1/PC9 (io), 41 PA8/USART1_CK/TIM1_CH1/MCO (io), 42 PA9/USART1_TX/ TIM1_CH2 (io), 43 PA10/USART1_RX/TIM1_CH3 (io), 44 PA11/USART1_CTS/CAN1_RX/TIM1_CH4/USBDM (io), 45 PA12/USART1_RTS/CAN1_TX/TIM1_ETR/USBDP (io), 46 JTMS/SWDIO/(PA13) (io), 47 VSS_2 (power), 48 VDD_2 (power), 49 JTCK/SWCLK/(PA14) (io), 50 JTDI/SPI3_NSS/ I2S3_WS/(PA15/TIM2_CH1_ETR/SPI1_NSS) (io), 51 (USART3_TX)/UART4_TX/SDIO_D2/PC10 (io), 52 (USART3_RX)/UART4_RX/SDIO_D3/PC11 (io), 53 (USART3_CK)/UART5_TX/SDIO_CK/PC12 (io), 54 PD2/TIM3_ETR/UART5_RX/SDIO_CMD (io), 55 (TRACESWO/TIM2_CH2/SPI1_SCK/PB3)/SPI3_SCK / I2S3_CK/JTDO (io), 56 (TIM3_CH1/SPI1_MISO/PB4)/SPI3_MISO/JNTRST (io), 57 (TIM3_CH2/SPI1_MISO)/I2C1_SMBA/SPI3_MOSI/I2S3_SD/PB5 (io), 58 (USART1_TX)/I2C1_SCL/TIM4_CH1/PB6 (io), 59 (USART1_RX)/I2C1_SDA/TIM4_CH2/PB7 (io), 60 BOOT0 (in), 61 (I2C1_SCL/CAN_RX)/TIM4_CH3/SDIO_D4/PB8 (io), 62 (I2C1_SDA/CAN_TX)/TIM4_CH4/SDIO_D5/PB9 (io), 63 VSS_3 (power), 64 VDD_3 (power)

## STM32F103VCT6
designator U?
High-density performance line ARM-based 32-bit MCU; Manufacturers: ST; 1000 Price  RMB: 13.5; 10 Price  RMB: 17
footprint TQFP-100
pins: 1 TRACECK/FSMC_A23/PE2 (io), 2 TRACED0/FSMC_A19/PE3 (io), 3 TRACED1/FSMC_A20/PE4 (io), 4 TRACED2/FSMC_A21/PE5 (io), 5 TRACED3/FSMC_A22/PE6 (io), 6 VBAT (power), 7 TAMPER-RTC/PC13 (io), 8 OSC32_IN/PC14 (io), 9 OSC32_OUT/PC15 (io), 10 VSS_5 (power), 11 VDD_5 (power), 12 OSC_IN (in), 13 OSC_OUT (out), 14 NRST (io), 15 ADC12_IN10/PC0 (io), 16 ADC12_IN11/PC1 (io), 17 ADC12_IN12/PC2 (io), 18 ADC12_IN13/PC3 (io), 19 VSSA (power), 20 VREF- (power), 21 VREF+ (power), 22 VDDA (power), 23 PA0/WKUP/USART2_CTS/ADC12_IN0/TIM2_CH1_ETR/TIM5_CH1/TIM8_ETR (io), 24 PA1/USART2_RTS/ ADC12_IN1/TIM5_CH2/TIM2_CH2 (io), 25 PA2/USART2_TX/TIM5_CH3/ADC12_IN2/TIM2_CH3 (io), 26 PA3/USART2_RX/TIM5_CH4/ADC12_IN3 /TIM2_CH4 (io), 27 VSS_4 (power), 28 VDD_4 (power), 29 PA4/SPI1_NSS/DAC_OUT1/USART2_CK/ ADC12_IN4 (io), 30 PA5/SPI1_SCK/DAC_OUT2/ADC12_IN5 (io), 31 PA6/SPI1_MISO/TIM8_BKIN/ADC12_IN6/TIM3_CH1/(TIM1_BKIN) (io), 32 PA7/SPI1_MOSI/TIM8_CH1N/ADC12_IN7/TIM3_CH2/(TIM1_CH1N) (io), 33 ADC12_IN14/PC4 (io), 34 ADC12_IN15 /PC5 (io), 35 PB0/ADC12_IN8/TIM3_CH3/TIM8_CH2N/(TIM1_CH2N) (io), 36 PB1/ADC12_IN9/TIM3_CH4/TIM8_CH3N/(TIM1_CH3N) (io), 37 PB2/BOOT1 (io), 38 (TIM1_ETR)/FSMC_D4/PE7 (io), 39 (TIM1_CH1N)/FSMC_D5/PE8 (io), 40 (TIM1_CH1)/FSMC_D6/PE9 (io), 41 (TIM1_CH2N)/FSMC_D7/PE10 (io), 42 (TIM1_CH2)/FSMC_D8/PE11 (io), 43 (TIM1_CH3N)/FSMC_D9/PE12 (io), 44 (TIM1_CH3)/FSMC_D10/PE13 (io), 45 (TIM1_CH4)/FSMC_D11/PE14 (io), 46 (TIM1_BKIN)/FSMC_D12/PE15 (io), 47 PB10/I2C2_SCL/USART3_TX/(TIM2_CH3) (io), 48 PB11/I2C2_SDA/USART3_RX/(TIM2_CH4) (io), 49 VSS_1 (power), 50 VDD_1 (power), 51 PB12/SPI2_NSS/I2S2_WS/I2C2_SMBA/ USART3_CK/TIM1_BKIN (io), 52 PB13/SPI2_SCK/I2S2_CK/USART3_CTS/TIM1_CH1N (io), 53 PB14/SPI2_MISO/TIM1_CH2N/USART3_RTS (io), 54 PB15/SPI2_MOSI/I2S2_SD/TIM1_CH3N (io), 55 (USART3_TX)/FSMC_D13/PD8 (io), 56 (USART3_RX)/FSMC_D14/PD9 (io), 57 (USART3_CK)/FSMC_D15/PD10 (io), 58 (USART3_CTS)/FSMC_A16/PD11 (io), 59 (TIM4_CH1/USART3_RTS)/FSMC_A17/PD12 (io), 60 (TIM4_CH2)/FSMC_A18/PD13 (io), 61 (TIM4_CH3)/FSMC_D0/PD14 (io), 62 (TIM4_CH4)/FSMC_D1/PD15 (io), 63 (TIM3_CH1)/I2S2_MCK/TIM8_CH1/SDIO_D6/PC6 (io), 64 (TIM3_CH2)/I2S3_MCK/TIM8_CH2/SDIO_D7/PC7 (io), 65 (TIM3_CH3)/TIM8_CH3/SDIO_D0/PC8 (io), 66 (TIM3_CH4)/TIM8_CH4/SDIO_D1/PC9 (io), 67 PA8/USART1_CK/TIM1_CH1/MCO (io), 68 PA9/USART1_TX/ TIM1_CH2 (io), 69 PA10/USART1_RX/TIM1_CH3 (io), 70 PA11/USART1_CTS/CAN1_RX/TIM1_CH4/USBDM (io), 71 PA12/USART1_RTS/CAN1_TX/TIM1_ETR/USBDP (io), 72 JTMS/SWDIO/(PA13) (io), 73 NC, 74 VSS_2 (power), 75 VDD_2 (power), 76 JTCK/SWCLK/(PA14) (io), 77 JTDI/SPI3_NSS/ I2S3_WS/(PA15/TIM2_CH1_ETR/SPI1_NSS) (io), 78 (USART3_TX)/UART4_TX/SDIO_D2/PC10 (io), 79 (USART3_RX)/UART4_RX/SDIO_D3/PC11 (io), 80 (USART3_CK)/UART5_TX/SDIO_CK/PC12 (io), 81 (CAN_RX)/FSMC_D2/OSC_IN/PD0 (io), 82 (CAN_TX)/FSMC_D3/OSC_OUT/PD1 (io), 83 TIM3_ETR/UART5_RX/SDIO_CMD/PD2 (io), 84 (USART2_CTS)/FSMC_CLK/PD3 (io), 85 (USART2_RTS)/FSMC_NOE/PD4 (io), 86 (USART2_TX)/FSMC_NWE/PD5 (io), 87 (USART2_RX)/FSMC_NWAIT/PD6 (io), 88 (USART2_CK)/FSMC_NE1/FSMC_NCE2/PD7 (io), 89 JTDO/SPI3_SCK / I2S3_CK/(TRACESWO/TIM2_CH2/SPI1_SCK/PB3) (io), 90 JNTRST/SPI3_MISO/(TIM3_CH1/SPI1_MISO/PB4) (io), 91 PB5/I2C1_SMBA/SPI3_MOSI/I2S3_SD/(TIM3_CH2/SPI1_MISO) (io), 92 PB6/I2C1_SCL/TIM4_CH1/(USART1_TX) (io), 93 PB7/I2C1_SDA/TIM4_CH2/(USART1_RX) (io), 94 BOOT0 (in), 95 PB8/TIM4_CH3/SDIO_D4/(I2C1_SCL/CAN_RX) (io), 96 PB9/TIM4_CH4/SDIO_D5/(I2C1_SDA/CAN_TX) (io), 97 TIM4_ETR/FSMC_NBL0/PE0 (io), 98 FSMC_NBL1/PE1 (io), 99 VSS_3 (power), 100 VDD_3 (power)

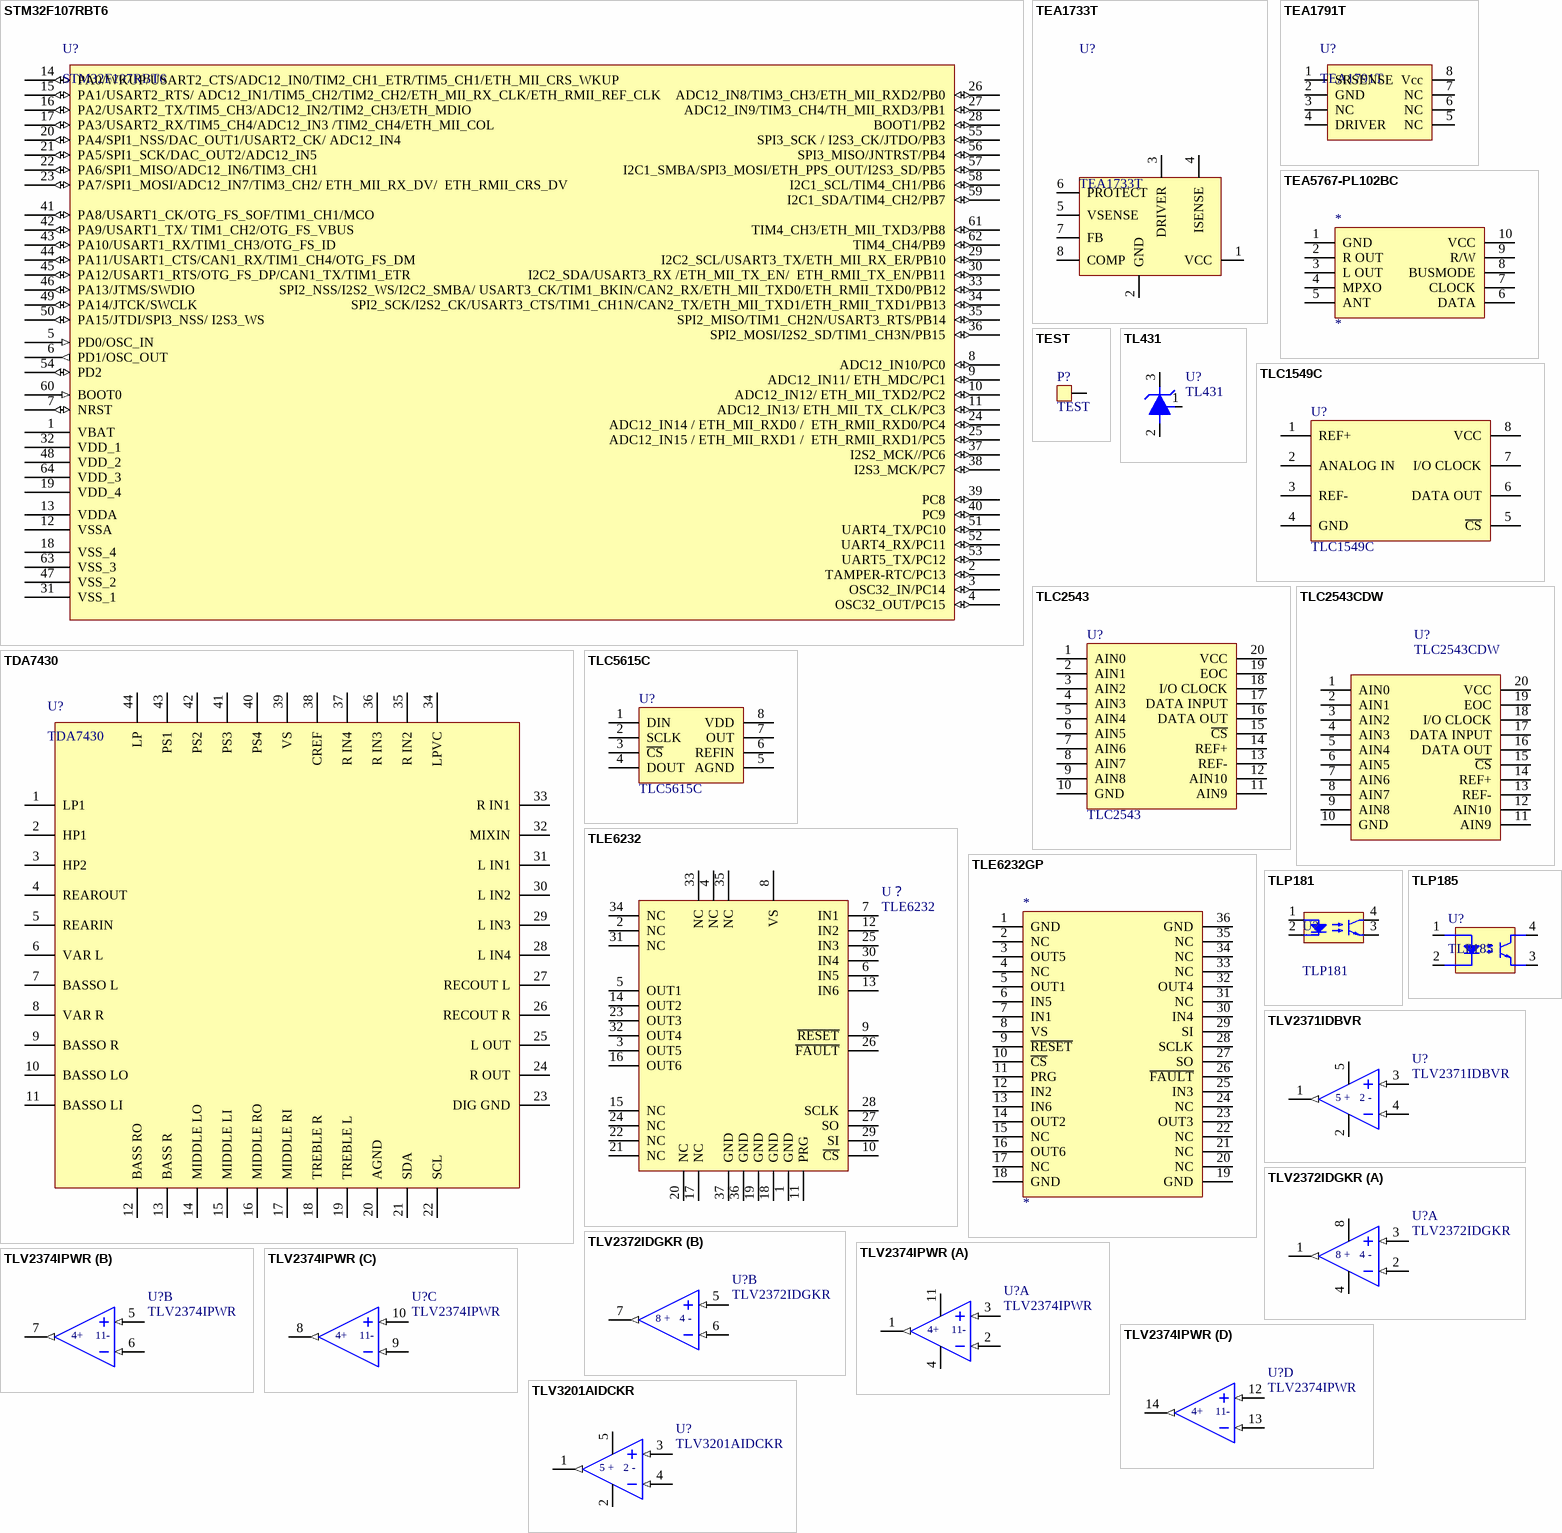
[diagram p8: symbols STM32F107RBT6 to TLV3201AIDCKR]